# Altium integrated library Actel ProASIC PLUS.IntLib: 242 symbols (part 8 of 36)
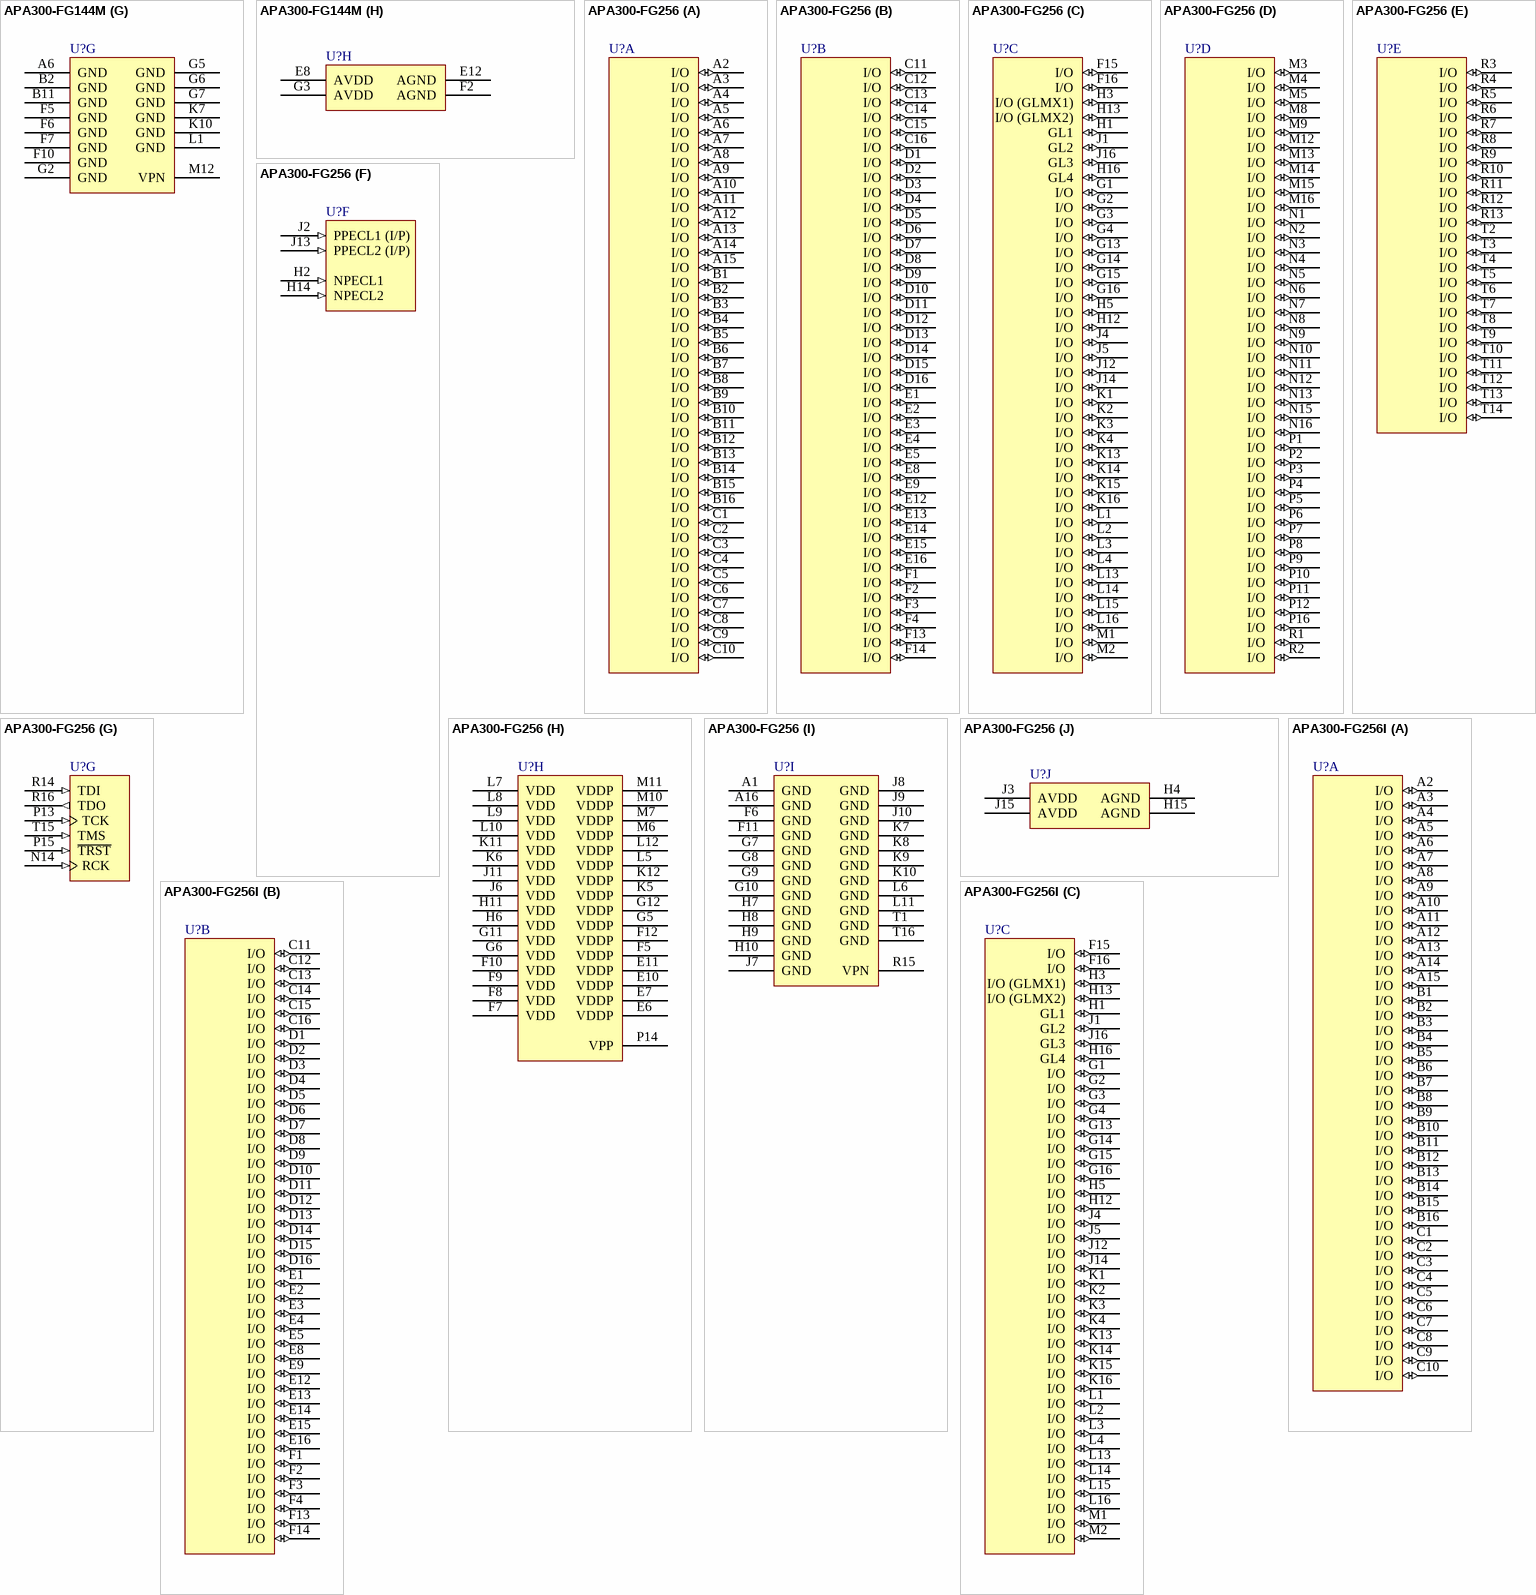
[diagram p204: symbols APA300-FG144M to APA300-FG256I]

## APA300-FG144M
designator U?
ProASICPlus APA300 Flash FPGA, 100 User IOs, 114-Pin FBGA, Speed Grade Standard, Military Grade; DatasheetVersion: v5.9, Jan-2010; PackageVersion: rev39, Aug-2010; PackageReference: FG144; PackageDescription: 144-Ball Fine Pitch Plastic Ball Grid Array (FG144); Code_JEDEC: MO-192-DAD-1; ComponentLink1Description: Manufacturer URL; ComponentLink1URL: http://www.actel.com/; ComponentLink2Description: ProASIC PLUS Datasheet; ComponentLink2URL: http://www.actel.com/documents/ProASICPLUS_DS.pdf; ComponentLink3Description: Package Mechanical Drawings; ComponentLink3URL: http://www.actel.com/documents/PckgMechDrwngs.pdf; ComponentLink4Description: ProASIC PLUS Documents; ComponentLink4URL: http://www.actel.com/products/proasicplus/docs.aspx
footprint FG144 (BGA, 144-Leads, Body 13x13mm, Pitch 1mm)
part A pins: A1 I/O (io), A2 I/O (io), A3 I/O (io), A4 I/O (io), A5 I/O (io), A7 I/O (io), A9 I/O (io), A10 I/O (io), A11 I/O (io), A12 I/O (io), B1 I/O (io), B3 I/O (io), B4 I/O (io), B5 I/O (io), B6 I/O (io), B7 I/O (io), B8 I/O (io), B9 I/O (io), B10 I/O (io), B12 I/O (io), C1 I/O (io), C3 I/O (io), C5 I/O (io), C6 I/O (io), C7 I/O (io), C8 I/O (io), C9 I/O (io), C10 I/O (io), C11 I/O (io), C12 I/O (io), D1 I/O (io), D2 I/O (io), D3 I/O (io), D4 I/O (io), D5 I/O (io), D6 I/O (io), D7 I/O (io), D8 I/O (io), D9 I/O (io), D10 I/O (io)
part B pins: C2 I/O (GL1) (io), D11 I/O (io), D12 I/O (GLMX2) (io), E2 I/O (io), E3 I/O (io), E5 I/O (io), F1 I/O (GL2) (io), F3 I/O (GLMX1) (io), F4 I/O (io), F8 I/O (io), F9 GL4 (io), F12 GL3 (io), G8 I/O (io), G9 I/O (io), G10 I/O (io), G11 I/O (io), G12 I/O (io), H2 I/O (io), H3 I/O (io), H4 I/O (io), H6 I/O (io), H7 I/O (io), H8 I/O (io), H9 I/O (io), H11 I/O (io), J1 I/O (io), J2 I/O (io), J4 I/O (io), J5 I/O (io), J6 I/O (io), J9 I/O (io), J11 I/O (io), J12 I/O (io), K1 I/O (io), K2 I/O (io), K3 I/O (io), K4 I/O (io), K5 I/O (io), K6 I/O (io), K8 I/O (io)
part C pins: K9 I/O (io), K11 I/O (io), K12 I/O (io), L2 I/O (io), L3 I/O (io), L4 I/O (io), L6 I/O (io), L7 I/O (io), L8 I/O (io), L11 I/O (io), M1 I/O (io), M2 I/O (io), M3 I/O (io), M4 I/O (io), M5 I/O (io), M6 I/O (io), M7 I/O (io), M8 I/O (io)
part D pins: E11 NPECL2 (in), F11 PPECL2 (I/P) (in), G1 PPECL1 (I/P) (in), G4 NPECL1 (in)
part E pins: J8 TCK (in), J10 TDO (out), L9 TMS (in), L10 RCK (in), L12 ~{TRST} (in), M9 TDI (in)
part F pins: A8 VDD (power), C4 VDD (power), E1 VDD (power), E4 VDDP (power), E6 VDDP (power), E7 VDDP (power), E9 VDDP (power), E10 VDD (power), H1 VDD (power), H5 VDD (power), H10 VDDP (power), H12 VDD (power), J3 VDDP (power), J7 VDD (power), L5 VDDP (power), M10 VDDP (power), M11 VPP (power)
part G pins: A6 GND (power), B2 GND (power), B11 GND (power), F5 GND (power), F6 GND (power), F7 GND (power), F10 GND (power), G2 GND (power), G5 GND (power), G6 GND (power), G7 GND (power), K7 GND (power), K10 GND (power), L1 GND (power), M12 VPN (power)
part H pins: E8 AVDD (power), E12 AGND (power), F2 AGND (power), G3 AVDD (power)

## APA300-FG256
designator U?
ProASICPlus APA300 Flash FPGA, 186 User IOs, 256-Pin FBGA, Speed Grade Standard, Commercial Grade; DatasheetVersion: v5.9, Jan-2010; PackageVersion: rev39, Aug-2010; PackageReference: FG256; PackageDescription: 256-Ball Fine Pitch Plastic Ball Grid Array 1.00 mm Pitch (FG256); Code_JEDEC: MO-192-DAF-1; ComponentLink1Description: Manufacturer URL; ComponentLink1URL: http://www.actel.com/; ComponentLink2Description: ProASIC PLUS Datasheet; ComponentLink2URL: http://www.actel.com/documents/ProASICPLUS_DS.pdf; ComponentLink3Description: Package Mechanical Drawings; ComponentLink3URL: http://www.actel.com/documents/PckgMechDrwngs.pdf; ComponentLink4Description: ProASIC PLUS Documents; ComponentLink4URL: http://www.actel.com/products/proasicplus/docs.aspx
footprint FG256 (BGA, 256-Leads, Body 17x17mm, Pitch 1mm)
part A pins: A2 I/O (io), A3 I/O (io), A4 I/O (io), A5 I/O (io), A6 I/O (io), A7 I/O (io), A8 I/O (io), A9 I/O (io), A10 I/O (io), A11 I/O (io), A12 I/O (io), A13 I/O (io), A14 I/O (io), A15 I/O (io), B1 I/O (io), B2 I/O (io), B3 I/O (io), B4 I/O (io), B5 I/O (io), B6 I/O (io), B7 I/O (io), B8 I/O (io), B9 I/O (io), B10 I/O (io), B11 I/O (io), B12 I/O (io), B13 I/O (io), B14 I/O (io), B15 I/O (io), B16 I/O (io), C1 I/O (io), C2 I/O (io), C3 I/O (io), C4 I/O (io), C5 I/O (io), C6 I/O (io), C7 I/O (io), C8 I/O (io), C9 I/O (io), C10 I/O (io)
part B pins: C11 I/O (io), C12 I/O (io), C13 I/O (io), C14 I/O (io), C15 I/O (io), C16 I/O (io), D1 I/O (io), D2 I/O (io), D3 I/O (io), D4 I/O (io), D5 I/O (io), D6 I/O (io), D7 I/O (io), D8 I/O (io), D9 I/O (io), D10 I/O (io), D11 I/O (io), D12 I/O (io), D13 I/O (io), D14 I/O (io), D15 I/O (io), D16 I/O (io), E1 I/O (io), E2 I/O (io), E3 I/O (io), E4 I/O (io), E5 I/O (io), E8 I/O (io), E9 I/O (io), E12 I/O (io), E13 I/O (io), E14 I/O (io), E15 I/O (io), E16 I/O (io), F1 I/O (io), F2 I/O (io), F3 I/O (io), F4 I/O (io), F13 I/O (io), F14 I/O (io)
part C pins: F15 I/O (io), F16 I/O (io), G1 I/O (io), G2 I/O (io), G3 I/O (io), G4 I/O (io), G13 I/O (io), G14 I/O (io), G15 I/O (io), G16 I/O (io), H1 GL1 (io), H3 I/O (GLMX1) (io), H5 I/O (io), H12 I/O (io), H13 I/O (GLMX2) (io), H16 GL4 (io), J1 GL2 (io), J4 I/O (io), J5 I/O (io), J12 I/O (io), J14 I/O (io), J16 GL3 (io), K1 I/O (io), K2 I/O (io), K3 I/O (io), K4 I/O (io), K13 I/O (io), K14 I/O (io), K15 I/O (io), K16 I/O (io), L1 I/O (io), L2 I/O (io), L3 I/O (io), L4 I/O (io), L13 I/O (io), L14 I/O (io), L15 I/O (io), L16 I/O (io), M1 I/O (io), M2 I/O (io)
part D pins: M3 I/O (io), M4 I/O (io), M5 I/O (io), M8 I/O (io), M9 I/O (io), M12 I/O (io), M13 I/O (io), M14 I/O (io), M15 I/O (io), M16 I/O (io), N1 I/O (io), N2 I/O (io), N3 I/O (io), N4 I/O (io), N5 I/O (io), N6 I/O (io), N7 I/O (io), N8 I/O (io), N9 I/O (io), N10 I/O (io), N11 I/O (io), N12 I/O (io), N13 I/O (io), N15 I/O (io), N16 I/O (io), P1 I/O (io), P2 I/O (io), P3 I/O (io), P4 I/O (io), P5 I/O (io), P6 I/O (io), P7 I/O (io), P8 I/O (io), P9 I/O (io), P10 I/O (io), P11 I/O (io), P12 I/O (io), P16 I/O (io), R1 I/O (io), R2 I/O (io)
part E pins: R3 I/O (io), R4 I/O (io), R5 I/O (io), R6 I/O (io), R7 I/O (io), R8 I/O (io), R9 I/O (io), R10 I/O (io), R11 I/O (io), R12 I/O (io), R13 I/O (io), T2 I/O (io), T3 I/O (io), T4 I/O (io), T5 I/O (io), T6 I/O (io), T7 I/O (io), T8 I/O (io), T9 I/O (io), T10 I/O (io), T11 I/O (io), T12 I/O (io), T13 I/O (io), T14 I/O (io)
part F pins: H2 NPECL1 (in), H14 NPECL2 (in), J2 PPECL1 (I/P) (in), J13 PPECL2 (I/P) (in)
part G pins: N14 RCK (in), P13 TCK (in), P15 ~{TRST} (in), R14 TDI (in), R16 TDO (out), T15 TMS (in)
part H pins: E6 VDDP (power), E7 VDDP (power), E10 VDDP (power), E11 VDDP (power), F5 VDDP (power), F7 VDD (power), F8 VDD (power), F9 VDD (power), F10 VDD (power), F12 VDDP (power), G5 VDDP (power), G6 VDD (power), G11 VDD (power), G12 VDDP (power), H6 VDD (power), H11 VDD (power), J6 VDD (power), J11 VDD (power), K5 VDDP (power), K6 VDD (power), K11 VDD (power), K12 VDDP (power), L5 VDDP (power), L7 VDD (power), L8 VDD (power), L9 VDD (power), L10 VDD (power), L12 VDDP (power), M6 VDDP (power), M7 VDDP (power), M10 VDDP (power), M11 VDDP (power), P14 VPP (power)
part I pins: A1 GND (power), A16 GND (power), F6 GND (power), F11 GND (power), G7 GND (power), G8 GND (power), G9 GND (power), G10 GND (power), H7 GND (power), H8 GND (power), H9 GND (power), H10 GND (power), J7 GND (power), J8 GND (power), J9 GND (power), J10 GND (power), K7 GND (power), K8 GND (power), K9 GND (power), K10 GND (power), L6 GND (power), L11 GND (power), R15 VPN (power), T1 GND (power), T16 GND (power)
part J pins: H4 AGND (power), H15 AGND (power), J3 AVDD (power), J15 AVDD (power)

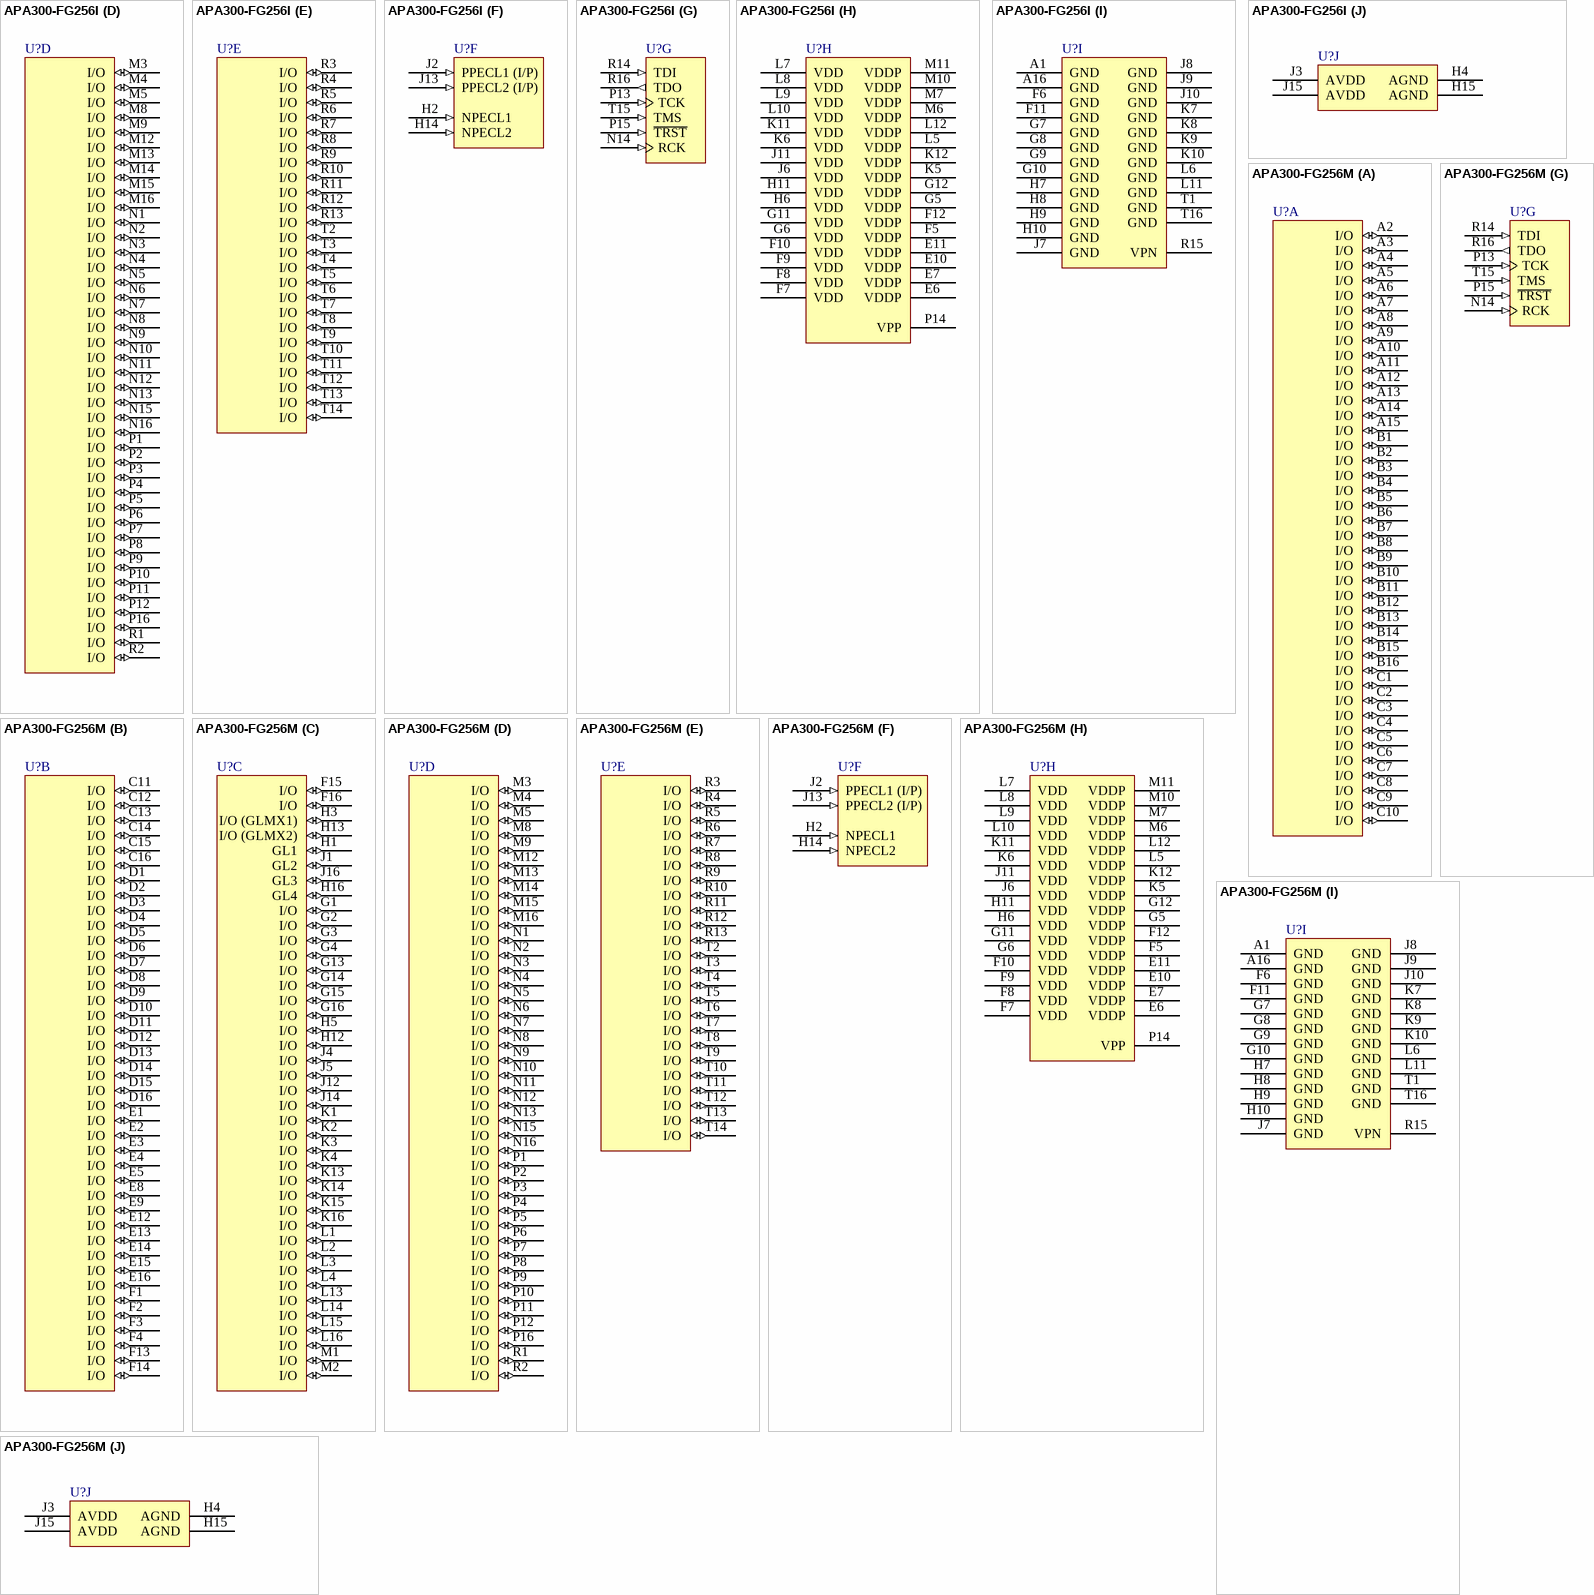
[diagram p48: symbols APA300-FG256I to APA300-FG256M]

## APA300-FG256I
designator U?
ProASICPlus APA300 Flash FPGA, 186 User IOs, 256-Pin FBGA, Speed Grade Standard, Industrial Grade; DatasheetVersion: v5.9, Jan-2010; PackageVersion: rev39, Aug-2010; PackageReference: FG256; PackageDescription: 256-Ball Fine Pitch Plastic Ball Grid Array 1.00 mm Pitch (FG256); Code_JEDEC: MO-192-DAF-1; ComponentLink1Description: Manufacturer URL; ComponentLink1URL: http://www.actel.com/; ComponentLink2Description: ProASIC PLUS Datasheet; ComponentLink2URL: http://www.actel.com/documents/ProASICPLUS_DS.pdf; ComponentLink3Description: Package Mechanical Drawings; ComponentLink3URL: http://www.actel.com/documents/PckgMechDrwngs.pdf; ComponentLink4Description: ProASIC PLUS Documents; ComponentLink4URL: http://www.actel.com/products/proasicplus/docs.aspx
footprint FG256 (BGA, 256-Leads, Body 17x17mm, Pitch 1mm)
part A pins: A2 I/O (io), A3 I/O (io), A4 I/O (io), A5 I/O (io), A6 I/O (io), A7 I/O (io), A8 I/O (io), A9 I/O (io), A10 I/O (io), A11 I/O (io), A12 I/O (io), A13 I/O (io), A14 I/O (io), A15 I/O (io), B1 I/O (io), B2 I/O (io), B3 I/O (io), B4 I/O (io), B5 I/O (io), B6 I/O (io), B7 I/O (io), B8 I/O (io), B9 I/O (io), B10 I/O (io), B11 I/O (io), B12 I/O (io), B13 I/O (io), B14 I/O (io), B15 I/O (io), B16 I/O (io), C1 I/O (io), C2 I/O (io), C3 I/O (io), C4 I/O (io), C5 I/O (io), C6 I/O (io), C7 I/O (io), C8 I/O (io), C9 I/O (io), C10 I/O (io)
part B pins: C11 I/O (io), C12 I/O (io), C13 I/O (io), C14 I/O (io), C15 I/O (io), C16 I/O (io), D1 I/O (io), D2 I/O (io), D3 I/O (io), D4 I/O (io), D5 I/O (io), D6 I/O (io), D7 I/O (io), D8 I/O (io), D9 I/O (io), D10 I/O (io), D11 I/O (io), D12 I/O (io), D13 I/O (io), D14 I/O (io), D15 I/O (io), D16 I/O (io), E1 I/O (io), E2 I/O (io), E3 I/O (io), E4 I/O (io), E5 I/O (io), E8 I/O (io), E9 I/O (io), E12 I/O (io), E13 I/O (io), E14 I/O (io), E15 I/O (io), E16 I/O (io), F1 I/O (io), F2 I/O (io), F3 I/O (io), F4 I/O (io), F13 I/O (io), F14 I/O (io)
part C pins: F15 I/O (io), F16 I/O (io), G1 I/O (io), G2 I/O (io), G3 I/O (io), G4 I/O (io), G13 I/O (io), G14 I/O (io), G15 I/O (io), G16 I/O (io), H1 GL1 (io), H3 I/O (GLMX1) (io), H5 I/O (io), H12 I/O (io), H13 I/O (GLMX2) (io), H16 GL4 (io), J1 GL2 (io), J4 I/O (io), J5 I/O (io), J12 I/O (io), J14 I/O (io), J16 GL3 (io), K1 I/O (io), K2 I/O (io), K3 I/O (io), K4 I/O (io), K13 I/O (io), K14 I/O (io), K15 I/O (io), K16 I/O (io), L1 I/O (io), L2 I/O (io), L3 I/O (io), L4 I/O (io), L13 I/O (io), L14 I/O (io), L15 I/O (io), L16 I/O (io), M1 I/O (io), M2 I/O (io)
part D pins: M3 I/O (io), M4 I/O (io), M5 I/O (io), M8 I/O (io), M9 I/O (io), M12 I/O (io), M13 I/O (io), M14 I/O (io), M15 I/O (io), M16 I/O (io), N1 I/O (io), N2 I/O (io), N3 I/O (io), N4 I/O (io), N5 I/O (io), N6 I/O (io), N7 I/O (io), N8 I/O (io), N9 I/O (io), N10 I/O (io), N11 I/O (io), N12 I/O (io), N13 I/O (io), N15 I/O (io), N16 I/O (io), P1 I/O (io), P2 I/O (io), P3 I/O (io), P4 I/O (io), P5 I/O (io), P6 I/O (io), P7 I/O (io), P8 I/O (io), P9 I/O (io), P10 I/O (io), P11 I/O (io), P12 I/O (io), P16 I/O (io), R1 I/O (io), R2 I/O (io)
part E pins: R3 I/O (io), R4 I/O (io), R5 I/O (io), R6 I/O (io), R7 I/O (io), R8 I/O (io), R9 I/O (io), R10 I/O (io), R11 I/O (io), R12 I/O (io), R13 I/O (io), T2 I/O (io), T3 I/O (io), T4 I/O (io), T5 I/O (io), T6 I/O (io), T7 I/O (io), T8 I/O (io), T9 I/O (io), T10 I/O (io), T11 I/O (io), T12 I/O (io), T13 I/O (io), T14 I/O (io)
part F pins: H2 NPECL1 (in), H14 NPECL2 (in), J2 PPECL1 (I/P) (in), J13 PPECL2 (I/P) (in)
part G pins: N14 RCK (in), P13 TCK (in), P15 ~{TRST} (in), R14 TDI (in), R16 TDO (out), T15 TMS (in)
part H pins: E6 VDDP (power), E7 VDDP (power), E10 VDDP (power), E11 VDDP (power), F5 VDDP (power), F7 VDD (power), F8 VDD (power), F9 VDD (power), F10 VDD (power), F12 VDDP (power), G5 VDDP (power), G6 VDD (power), G11 VDD (power), G12 VDDP (power), H6 VDD (power), H11 VDD (power), J6 VDD (power), J11 VDD (power), K5 VDDP (power), K6 VDD (power), K11 VDD (power), K12 VDDP (power), L5 VDDP (power), L7 VDD (power), L8 VDD (power), L9 VDD (power), L10 VDD (power), L12 VDDP (power), M6 VDDP (power), M7 VDDP (power), M10 VDDP (power), M11 VDDP (power), P14 VPP (power)
part I pins: A1 GND (power), A16 GND (power), F6 GND (power), F11 GND (power), G7 GND (power), G8 GND (power), G9 GND (power), G10 GND (power), H7 GND (power), H8 GND (power), H9 GND (power), H10 GND (power), J7 GND (power), J8 GND (power), J9 GND (power), J10 GND (power), K7 GND (power), K8 GND (power), K9 GND (power), K10 GND (power), L6 GND (power), L11 GND (power), R15 VPN (power), T1 GND (power), T16 GND (power)
part J pins: H4 AGND (power), H15 AGND (power), J3 AVDD (power), J15 AVDD (power)

## APA300-FG256M
designator U?
ProASICPlus APA300 Flash FPGA, 186 User IOs, 256-Pin FBGA, Speed Grade Standard, Military Grade; DatasheetVersion: v5.9, Jan-2010; PackageVersion: rev39, Aug-2010; PackageReference: FG256; PackageDescription: 256-Ball Fine Pitch Plastic Ball Grid Array 1.00 mm Pitch (FG256); Code_JEDEC: MO-192-DAF-1; ComponentLink1Description: Manufacturer URL; ComponentLink1URL: http://www.actel.com/; ComponentLink2Description: ProASIC PLUS Datasheet; ComponentLink2URL: http://www.actel.com/documents/ProASICPLUS_DS.pdf; ComponentLink3Description: Package Mechanical Drawings; ComponentLink3URL: http://www.actel.com/documents/PckgMechDrwngs.pdf; ComponentLink4Description: ProASIC PLUS Documents; ComponentLink4URL: http://www.actel.com/products/proasicplus/docs.aspx
footprint FG256 (BGA, 256-Leads, Body 17x17mm, Pitch 1mm)
part A pins: A2 I/O (io), A3 I/O (io), A4 I/O (io), A5 I/O (io), A6 I/O (io), A7 I/O (io), A8 I/O (io), A9 I/O (io), A10 I/O (io), A11 I/O (io), A12 I/O (io), A13 I/O (io), A14 I/O (io), A15 I/O (io), B1 I/O (io), B2 I/O (io), B3 I/O (io), B4 I/O (io), B5 I/O (io), B6 I/O (io), B7 I/O (io), B8 I/O (io), B9 I/O (io), B10 I/O (io), B11 I/O (io), B12 I/O (io), B13 I/O (io), B14 I/O (io), B15 I/O (io), B16 I/O (io), C1 I/O (io), C2 I/O (io), C3 I/O (io), C4 I/O (io), C5 I/O (io), C6 I/O (io), C7 I/O (io), C8 I/O (io), C9 I/O (io), C10 I/O (io)
part B pins: C11 I/O (io), C12 I/O (io), C13 I/O (io), C14 I/O (io), C15 I/O (io), C16 I/O (io), D1 I/O (io), D2 I/O (io), D3 I/O (io), D4 I/O (io), D5 I/O (io), D6 I/O (io), D7 I/O (io), D8 I/O (io), D9 I/O (io), D10 I/O (io), D11 I/O (io), D12 I/O (io), D13 I/O (io), D14 I/O (io), D15 I/O (io), D16 I/O (io), E1 I/O (io), E2 I/O (io), E3 I/O (io), E4 I/O (io), E5 I/O (io), E8 I/O (io), E9 I/O (io), E12 I/O (io), E13 I/O (io), E14 I/O (io), E15 I/O (io), E16 I/O (io), F1 I/O (io), F2 I/O (io), F3 I/O (io), F4 I/O (io), F13 I/O (io), F14 I/O (io)
part C pins: F15 I/O (io), F16 I/O (io), G1 I/O (io), G2 I/O (io), G3 I/O (io), G4 I/O (io), G13 I/O (io), G14 I/O (io), G15 I/O (io), G16 I/O (io), H1 GL1 (io), H3 I/O (GLMX1) (io), H5 I/O (io), H12 I/O (io), H13 I/O (GLMX2) (io), H16 GL4 (io), J1 GL2 (io), J4 I/O (io), J5 I/O (io), J12 I/O (io), J14 I/O (io), J16 GL3 (io), K1 I/O (io), K2 I/O (io), K3 I/O (io), K4 I/O (io), K13 I/O (io), K14 I/O (io), K15 I/O (io), K16 I/O (io), L1 I/O (io), L2 I/O (io), L3 I/O (io), L4 I/O (io), L13 I/O (io), L14 I/O (io), L15 I/O (io), L16 I/O (io), M1 I/O (io), M2 I/O (io)
part D pins: M3 I/O (io), M4 I/O (io), M5 I/O (io), M8 I/O (io), M9 I/O (io), M12 I/O (io), M13 I/O (io), M14 I/O (io), M15 I/O (io), M16 I/O (io), N1 I/O (io), N2 I/O (io), N3 I/O (io), N4 I/O (io), N5 I/O (io), N6 I/O (io), N7 I/O (io), N8 I/O (io), N9 I/O (io), N10 I/O (io), N11 I/O (io), N12 I/O (io), N13 I/O (io), N15 I/O (io), N16 I/O (io), P1 I/O (io), P2 I/O (io), P3 I/O (io), P4 I/O (io), P5 I/O (io), P6 I/O (io), P7 I/O (io), P8 I/O (io), P9 I/O (io), P10 I/O (io), P11 I/O (io), P12 I/O (io), P16 I/O (io), R1 I/O (io), R2 I/O (io)
part E pins: R3 I/O (io), R4 I/O (io), R5 I/O (io), R6 I/O (io), R7 I/O (io), R8 I/O (io), R9 I/O (io), R10 I/O (io), R11 I/O (io), R12 I/O (io), R13 I/O (io), T2 I/O (io), T3 I/O (io), T4 I/O (io), T5 I/O (io), T6 I/O (io), T7 I/O (io), T8 I/O (io), T9 I/O (io), T10 I/O (io), T11 I/O (io), T12 I/O (io), T13 I/O (io), T14 I/O (io)
part F pins: H2 NPECL1 (in), H14 NPECL2 (in), J2 PPECL1 (I/P) (in), J13 PPECL2 (I/P) (in)
part G pins: N14 RCK (in), P13 TCK (in), P15 ~{TRST} (in), R14 TDI (in), R16 TDO (out), T15 TMS (in)
part H pins: E6 VDDP (power), E7 VDDP (power), E10 VDDP (power), E11 VDDP (power), F5 VDDP (power), F7 VDD (power), F8 VDD (power), F9 VDD (power), F10 VDD (power), F12 VDDP (power), G5 VDDP (power), G6 VDD (power), G11 VDD (power), G12 VDDP (power), H6 VDD (power), H11 VDD (power), J6 VDD (power), J11 VDD (power), K5 VDDP (power), K6 VDD (power), K11 VDD (power), K12 VDDP (power), L5 VDDP (power), L7 VDD (power), L8 VDD (power), L9 VDD (power), L10 VDD (power), L12 VDDP (power), M6 VDDP (power), M7 VDDP (power), M10 VDDP (power), M11 VDDP (power), P14 VPP (power)
part I pins: A1 GND (power), A16 GND (power), F6 GND (power), F11 GND (power), G7 GND (power), G8 GND (power), G9 GND (power), G10 GND (power), H7 GND (power), H8 GND (power), H9 GND (power), H10 GND (power), J7 GND (power), J8 GND (power), J9 GND (power), J10 GND (power), K7 GND (power), K8 GND (power), K9 GND (power), K10 GND (power), L6 GND (power), L11 GND (power), R15 VPN (power), T1 GND (power), T16 GND (power)
part J pins: H4 AGND (power), H15 AGND (power), J3 AVDD (power), J15 AVDD (power)

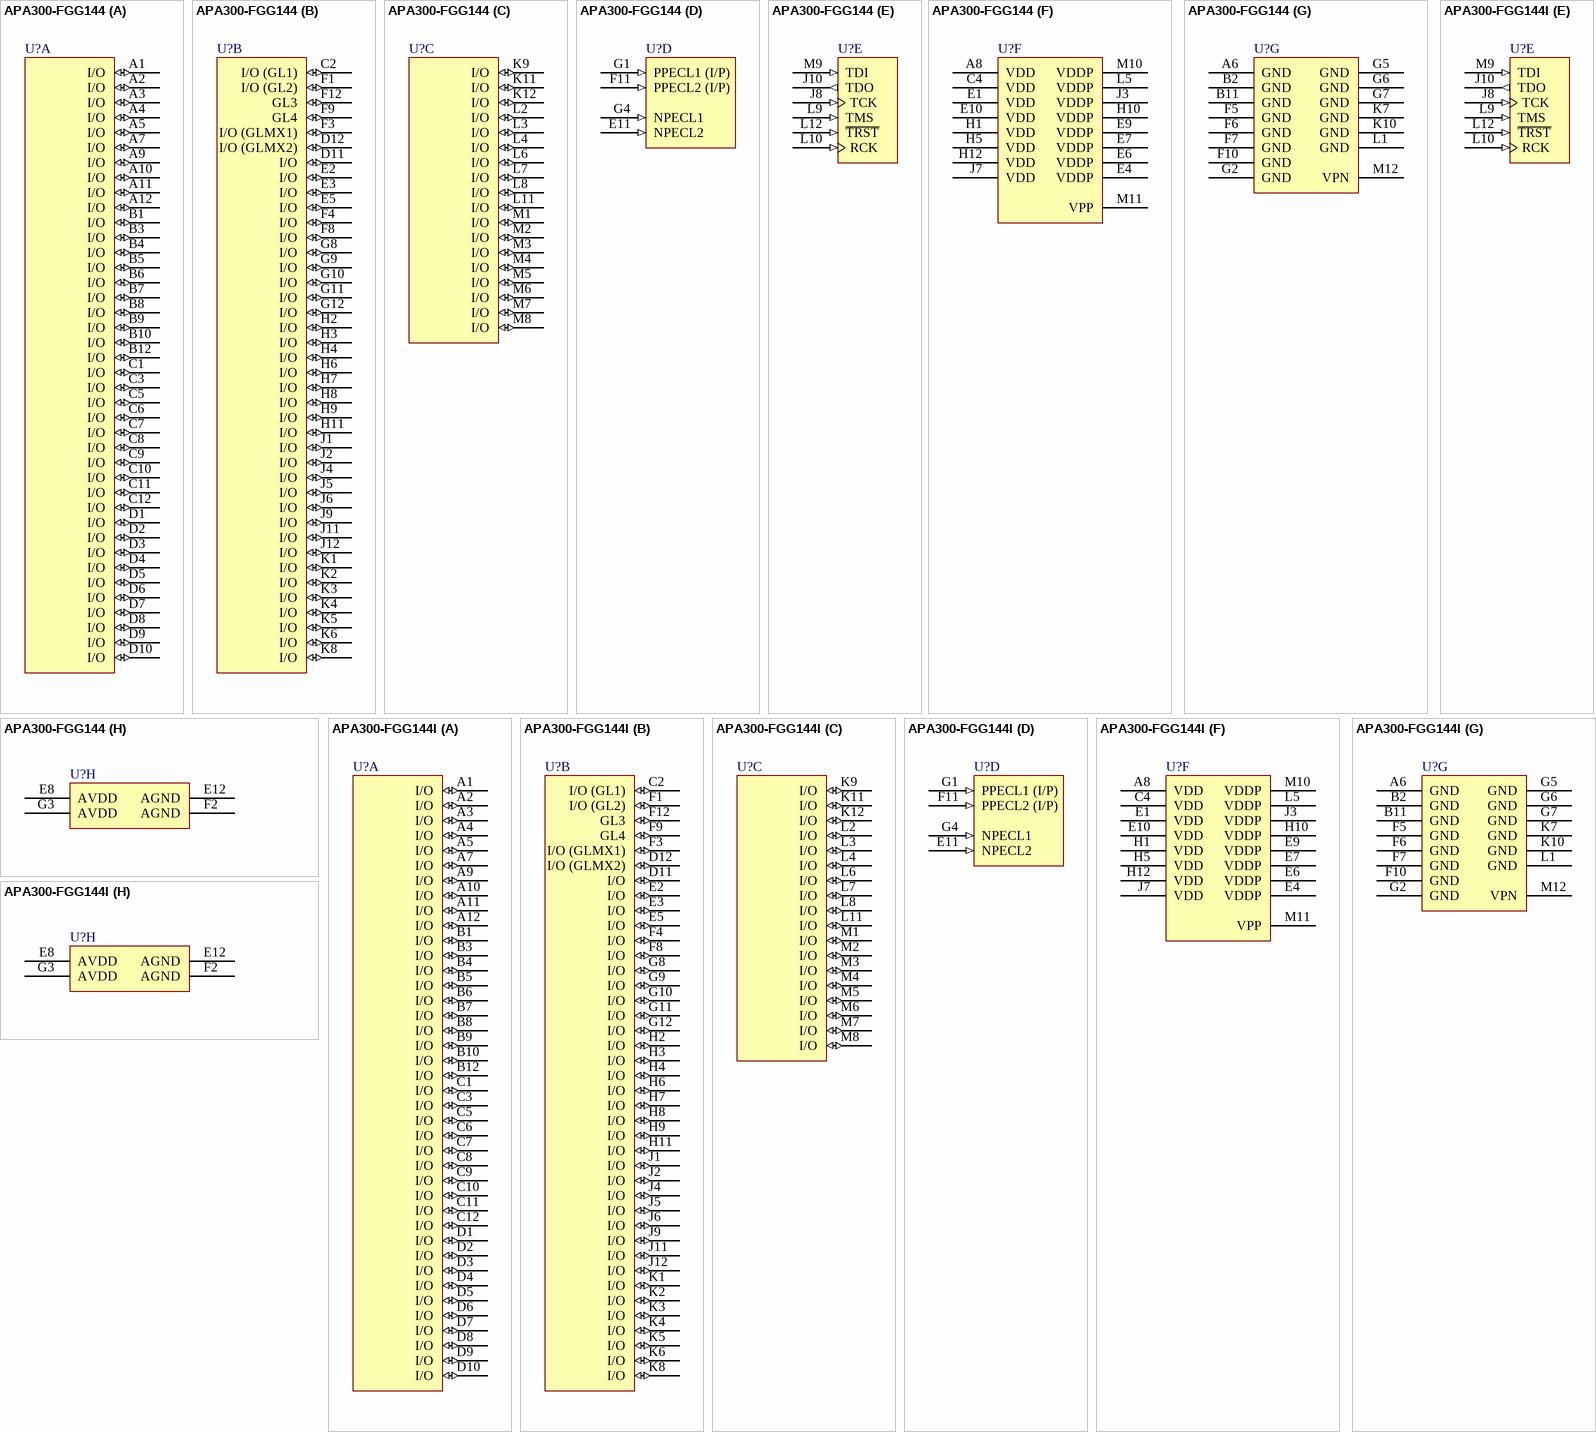
[diagram p49: symbols APA300-FGG144 to APA300-FGG144I]

## APA300-FGG144
designator U?
ProASICPlus APA300 Flash FPGA, 100 User IOs, 114-Pin FBGA, Speed Grade Standard, Commercial Grade, Pb-Free; DatasheetVersion: v5.9, Jan-2010; PackageVersion: rev39, Aug-2010; PackageReference: FG144; PackageDescription: 144-Ball Fine Pitch Plastic Ball Grid Array (FG144); Code_JEDEC: MO-192-DAD-1; ComponentLink1Description: Manufacturer URL; ComponentLink1URL: http://www.actel.com/; ComponentLink2Description: ProASIC PLUS Datasheet; ComponentLink2URL: http://www.actel.com/documents/ProASICPLUS_DS.pdf; ComponentLink3Description: Package Mechanical Drawings; ComponentLink3URL: http://www.actel.com/documents/PckgMechDrwngs.pdf; ComponentLink4Description: ProASIC PLUS Documents; ComponentLink4URL: http://www.actel.com/products/proasicplus/docs.aspx
footprint FG144 (BGA, 144-Leads, Body 13x13mm, Pitch 1mm)
part A pins: A1 I/O (io), A2 I/O (io), A3 I/O (io), A4 I/O (io), A5 I/O (io), A7 I/O (io), A9 I/O (io), A10 I/O (io), A11 I/O (io), A12 I/O (io), B1 I/O (io), B3 I/O (io), B4 I/O (io), B5 I/O (io), B6 I/O (io), B7 I/O (io), B8 I/O (io), B9 I/O (io), B10 I/O (io), B12 I/O (io), C1 I/O (io), C3 I/O (io), C5 I/O (io), C6 I/O (io), C7 I/O (io), C8 I/O (io), C9 I/O (io), C10 I/O (io), C11 I/O (io), C12 I/O (io), D1 I/O (io), D2 I/O (io), D3 I/O (io), D4 I/O (io), D5 I/O (io), D6 I/O (io), D7 I/O (io), D8 I/O (io), D9 I/O (io), D10 I/O (io)
part B pins: C2 I/O (GL1) (io), D11 I/O (io), D12 I/O (GLMX2) (io), E2 I/O (io), E3 I/O (io), E5 I/O (io), F1 I/O (GL2) (io), F3 I/O (GLMX1) (io), F4 I/O (io), F8 I/O (io), F9 GL4 (io), F12 GL3 (io), G8 I/O (io), G9 I/O (io), G10 I/O (io), G11 I/O (io), G12 I/O (io), H2 I/O (io), H3 I/O (io), H4 I/O (io), H6 I/O (io), H7 I/O (io), H8 I/O (io), H9 I/O (io), H11 I/O (io), J1 I/O (io), J2 I/O (io), J4 I/O (io), J5 I/O (io), J6 I/O (io), J9 I/O (io), J11 I/O (io), J12 I/O (io), K1 I/O (io), K2 I/O (io), K3 I/O (io), K4 I/O (io), K5 I/O (io), K6 I/O (io), K8 I/O (io)
part C pins: K9 I/O (io), K11 I/O (io), K12 I/O (io), L2 I/O (io), L3 I/O (io), L4 I/O (io), L6 I/O (io), L7 I/O (io), L8 I/O (io), L11 I/O (io), M1 I/O (io), M2 I/O (io), M3 I/O (io), M4 I/O (io), M5 I/O (io), M6 I/O (io), M7 I/O (io), M8 I/O (io)
part D pins: E11 NPECL2 (in), F11 PPECL2 (I/P) (in), G1 PPECL1 (I/P) (in), G4 NPECL1 (in)
part E pins: J8 TCK (in), J10 TDO (out), L9 TMS (in), L10 RCK (in), L12 ~{TRST} (in), M9 TDI (in)
part F pins: A8 VDD (power), C4 VDD (power), E1 VDD (power), E4 VDDP (power), E6 VDDP (power), E7 VDDP (power), E9 VDDP (power), E10 VDD (power), H1 VDD (power), H5 VDD (power), H10 VDDP (power), H12 VDD (power), J3 VDDP (power), J7 VDD (power), L5 VDDP (power), M10 VDDP (power), M11 VPP (power)
part G pins: A6 GND (power), B2 GND (power), B11 GND (power), F5 GND (power), F6 GND (power), F7 GND (power), F10 GND (power), G2 GND (power), G5 GND (power), G6 GND (power), G7 GND (power), K7 GND (power), K10 GND (power), L1 GND (power), M12 VPN (power)
part H pins: E8 AVDD (power), E12 AGND (power), F2 AGND (power), G3 AVDD (power)

## APA300-FGG144I
designator U?
ProASICPlus APA300 Flash FPGA, 100 User IOs, 114-Pin FBGA, Speed Grade Standard, Industrial Grade, Pb-Free; DatasheetVersion: v5.9, Jan-2010; PackageVersion: rev39, Aug-2010; PackageReference: FG144; PackageDescription: 144-Ball Fine Pitch Plastic Ball Grid Array (FG144); Code_JEDEC: MO-192-DAD-1; ComponentLink1Description: Manufacturer URL; ComponentLink1URL: http://www.actel.com/; ComponentLink2Description: ProASIC PLUS Datasheet; ComponentLink2URL: http://www.actel.com/documents/ProASICPLUS_DS.pdf; ComponentLink3Description: Package Mechanical Drawings; ComponentLink3URL: http://www.actel.com/documents/PckgMechDrwngs.pdf; ComponentLink4Description: ProASIC PLUS Documents; ComponentLink4URL: http://www.actel.com/products/proasicplus/docs.aspx
footprint FG144 (BGA, 144-Leads, Body 13x13mm, Pitch 1mm)
part A pins: A1 I/O (io), A2 I/O (io), A3 I/O (io), A4 I/O (io), A5 I/O (io), A7 I/O (io), A9 I/O (io), A10 I/O (io), A11 I/O (io), A12 I/O (io), B1 I/O (io), B3 I/O (io), B4 I/O (io), B5 I/O (io), B6 I/O (io), B7 I/O (io), B8 I/O (io), B9 I/O (io), B10 I/O (io), B12 I/O (io), C1 I/O (io), C3 I/O (io), C5 I/O (io), C6 I/O (io), C7 I/O (io), C8 I/O (io), C9 I/O (io), C10 I/O (io), C11 I/O (io), C12 I/O (io), D1 I/O (io), D2 I/O (io), D3 I/O (io), D4 I/O (io), D5 I/O (io), D6 I/O (io), D7 I/O (io), D8 I/O (io), D9 I/O (io), D10 I/O (io)
part B pins: C2 I/O (GL1) (io), D11 I/O (io), D12 I/O (GLMX2) (io), E2 I/O (io), E3 I/O (io), E5 I/O (io), F1 I/O (GL2) (io), F3 I/O (GLMX1) (io), F4 I/O (io), F8 I/O (io), F9 GL4 (io), F12 GL3 (io), G8 I/O (io), G9 I/O (io), G10 I/O (io), G11 I/O (io), G12 I/O (io), H2 I/O (io), H3 I/O (io), H4 I/O (io), H6 I/O (io), H7 I/O (io), H8 I/O (io), H9 I/O (io), H11 I/O (io), J1 I/O (io), J2 I/O (io), J4 I/O (io), J5 I/O (io), J6 I/O (io), J9 I/O (io), J11 I/O (io), J12 I/O (io), K1 I/O (io), K2 I/O (io), K3 I/O (io), K4 I/O (io), K5 I/O (io), K6 I/O (io), K8 I/O (io)
part C pins: K9 I/O (io), K11 I/O (io), K12 I/O (io), L2 I/O (io), L3 I/O (io), L4 I/O (io), L6 I/O (io), L7 I/O (io), L8 I/O (io), L11 I/O (io), M1 I/O (io), M2 I/O (io), M3 I/O (io), M4 I/O (io), M5 I/O (io), M6 I/O (io), M7 I/O (io), M8 I/O (io)
part D pins: E11 NPECL2 (in), F11 PPECL2 (I/P) (in), G1 PPECL1 (I/P) (in), G4 NPECL1 (in)
part E pins: J8 TCK (in), J10 TDO (out), L9 TMS (in), L10 RCK (in), L12 ~{TRST} (in), M9 TDI (in)
part F pins: A8 VDD (power), C4 VDD (power), E1 VDD (power), E4 VDDP (power), E6 VDDP (power), E7 VDDP (power), E9 VDDP (power), E10 VDD (power), H1 VDD (power), H5 VDD (power), H10 VDDP (power), H12 VDD (power), J3 VDDP (power), J7 VDD (power), L5 VDDP (power), M10 VDDP (power), M11 VPP (power)
part G pins: A6 GND (power), B2 GND (power), B11 GND (power), F5 GND (power), F6 GND (power), F7 GND (power), F10 GND (power), G2 GND (power), G5 GND (power), G6 GND (power), G7 GND (power), K7 GND (power), K10 GND (power), L1 GND (power), M12 VPN (power)
part H pins: E8 AVDD (power), E12 AGND (power), F2 AGND (power), G3 AVDD (power)

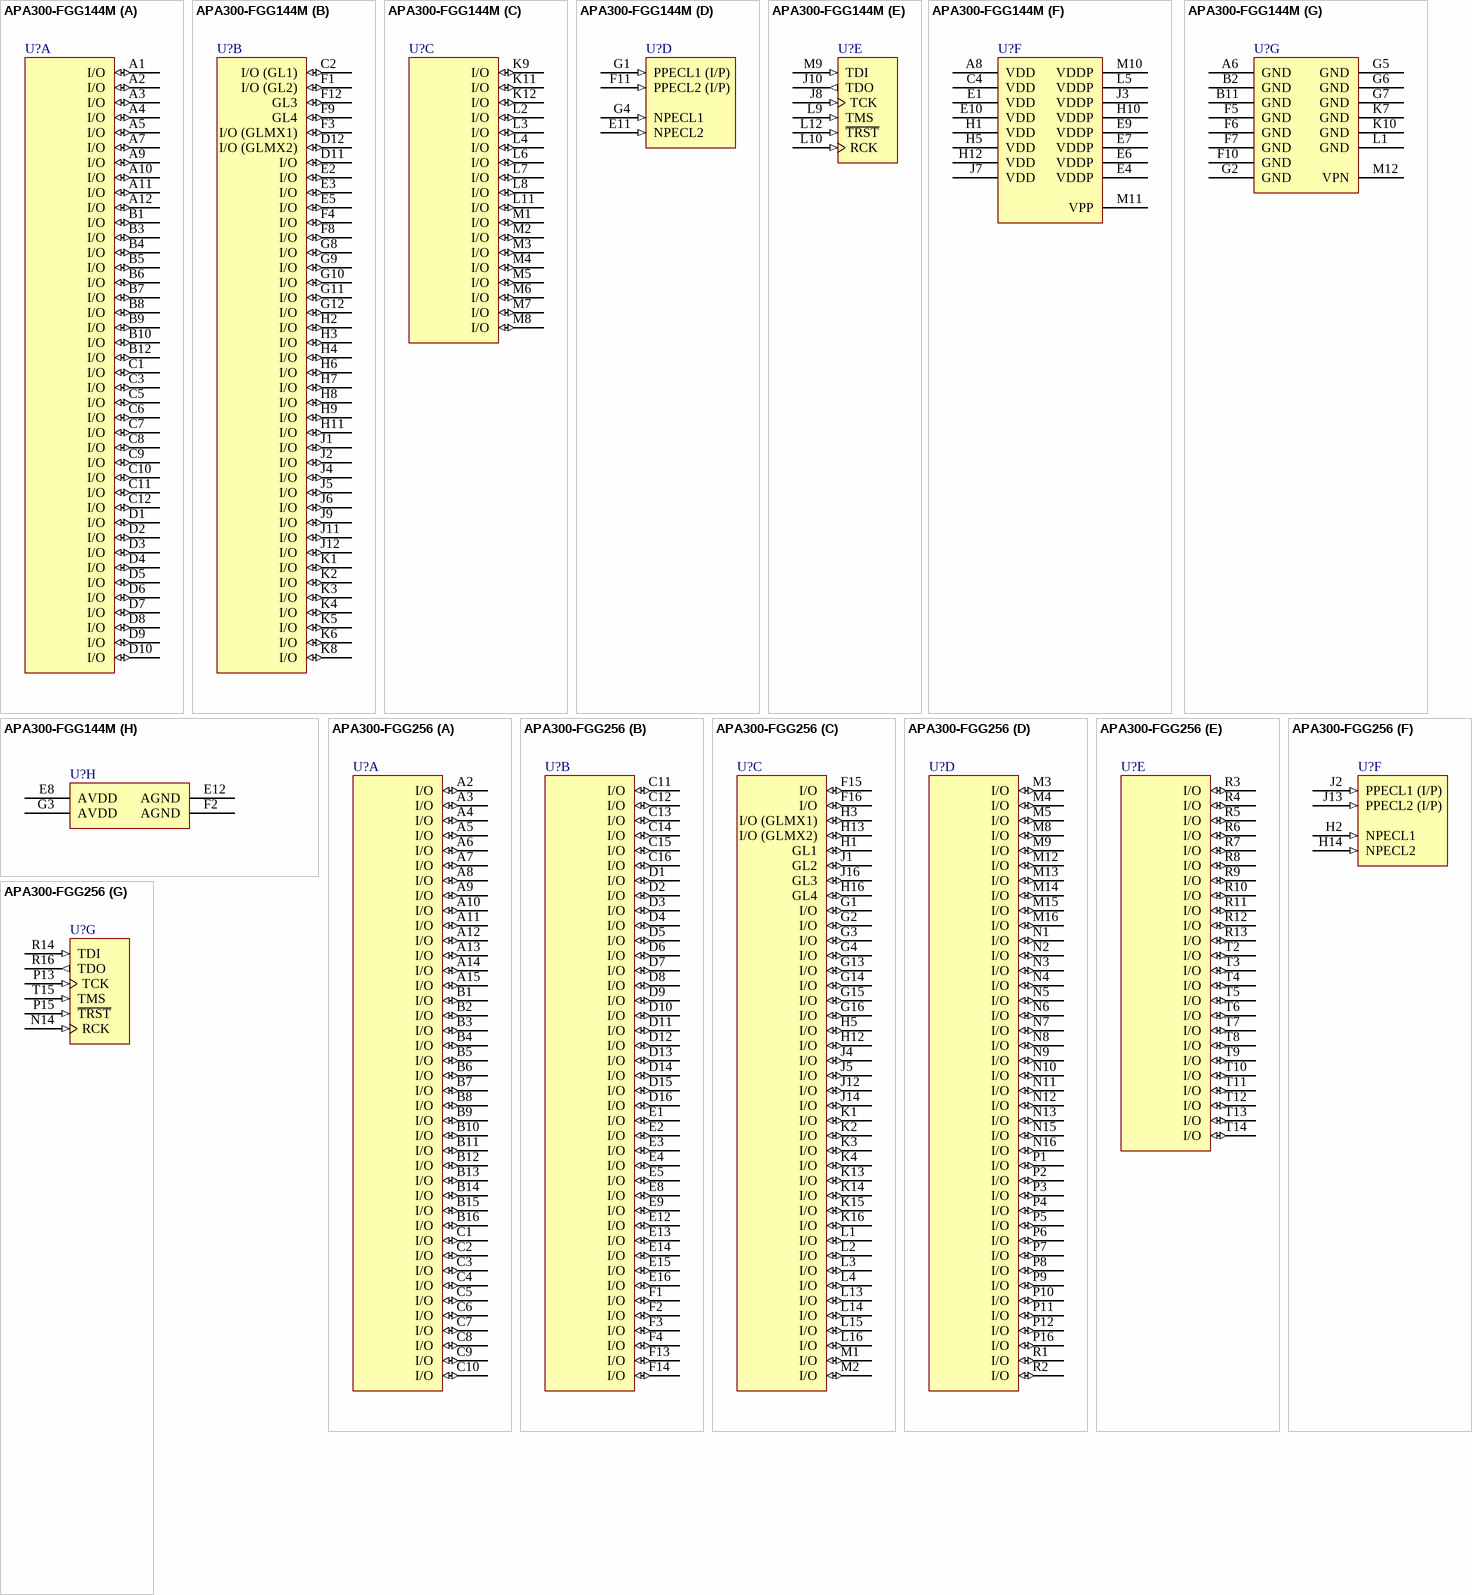
[diagram p50: symbols APA300-FGG144M to APA300-FGG256]

## APA300-FGG144M
designator U?
ProASICPlus APA300 Flash FPGA, 100 User IOs, 114-Pin FBGA, Speed Grade Standard, Military Grade, Pb-Free; DatasheetVersion: v5.9, Jan-2010; PackageVersion: rev39, Aug-2010; PackageReference: FG144; PackageDescription: 144-Ball Fine Pitch Plastic Ball Grid Array (FG144); Code_JEDEC: MO-192-DAD-1; ComponentLink1Description: Manufacturer URL; ComponentLink1URL: http://www.actel.com/; ComponentLink2Description: ProASIC PLUS Datasheet; ComponentLink2URL: http://www.actel.com/documents/ProASICPLUS_DS.pdf; ComponentLink3Description: Package Mechanical Drawings; ComponentLink3URL: http://www.actel.com/documents/PckgMechDrwngs.pdf; ComponentLink4Description: ProASIC PLUS Documents; ComponentLink4URL: http://www.actel.com/products/proasicplus/docs.aspx
footprint FG144 (BGA, 144-Leads, Body 13x13mm, Pitch 1mm)
part A pins: A1 I/O (io), A2 I/O (io), A3 I/O (io), A4 I/O (io), A5 I/O (io), A7 I/O (io), A9 I/O (io), A10 I/O (io), A11 I/O (io), A12 I/O (io), B1 I/O (io), B3 I/O (io), B4 I/O (io), B5 I/O (io), B6 I/O (io), B7 I/O (io), B8 I/O (io), B9 I/O (io), B10 I/O (io), B12 I/O (io), C1 I/O (io), C3 I/O (io), C5 I/O (io), C6 I/O (io), C7 I/O (io), C8 I/O (io), C9 I/O (io), C10 I/O (io), C11 I/O (io), C12 I/O (io), D1 I/O (io), D2 I/O (io), D3 I/O (io), D4 I/O (io), D5 I/O (io), D6 I/O (io), D7 I/O (io), D8 I/O (io), D9 I/O (io), D10 I/O (io)
part B pins: C2 I/O (GL1) (io), D11 I/O (io), D12 I/O (GLMX2) (io), E2 I/O (io), E3 I/O (io), E5 I/O (io), F1 I/O (GL2) (io), F3 I/O (GLMX1) (io), F4 I/O (io), F8 I/O (io), F9 GL4 (io), F12 GL3 (io), G8 I/O (io), G9 I/O (io), G10 I/O (io), G11 I/O (io), G12 I/O (io), H2 I/O (io), H3 I/O (io), H4 I/O (io), H6 I/O (io), H7 I/O (io), H8 I/O (io), H9 I/O (io), H11 I/O (io), J1 I/O (io), J2 I/O (io), J4 I/O (io), J5 I/O (io), J6 I/O (io), J9 I/O (io), J11 I/O (io), J12 I/O (io), K1 I/O (io), K2 I/O (io), K3 I/O (io), K4 I/O (io), K5 I/O (io), K6 I/O (io), K8 I/O (io)
part C pins: K9 I/O (io), K11 I/O (io), K12 I/O (io), L2 I/O (io), L3 I/O (io), L4 I/O (io), L6 I/O (io), L7 I/O (io), L8 I/O (io), L11 I/O (io), M1 I/O (io), M2 I/O (io), M3 I/O (io), M4 I/O (io), M5 I/O (io), M6 I/O (io), M7 I/O (io), M8 I/O (io)
part D pins: E11 NPECL2 (in), F11 PPECL2 (I/P) (in), G1 PPECL1 (I/P) (in), G4 NPECL1 (in)
part E pins: J8 TCK (in), J10 TDO (out), L9 TMS (in), L10 RCK (in), L12 ~{TRST} (in), M9 TDI (in)
part F pins: A8 VDD (power), C4 VDD (power), E1 VDD (power), E4 VDDP (power), E6 VDDP (power), E7 VDDP (power), E9 VDDP (power), E10 VDD (power), H1 VDD (power), H5 VDD (power), H10 VDDP (power), H12 VDD (power), J3 VDDP (power), J7 VDD (power), L5 VDDP (power), M10 VDDP (power), M11 VPP (power)
part G pins: A6 GND (power), B2 GND (power), B11 GND (power), F5 GND (power), F6 GND (power), F7 GND (power), F10 GND (power), G2 GND (power), G5 GND (power), G6 GND (power), G7 GND (power), K7 GND (power), K10 GND (power), L1 GND (power), M12 VPN (power)
part H pins: E8 AVDD (power), E12 AGND (power), F2 AGND (power), G3 AVDD (power)

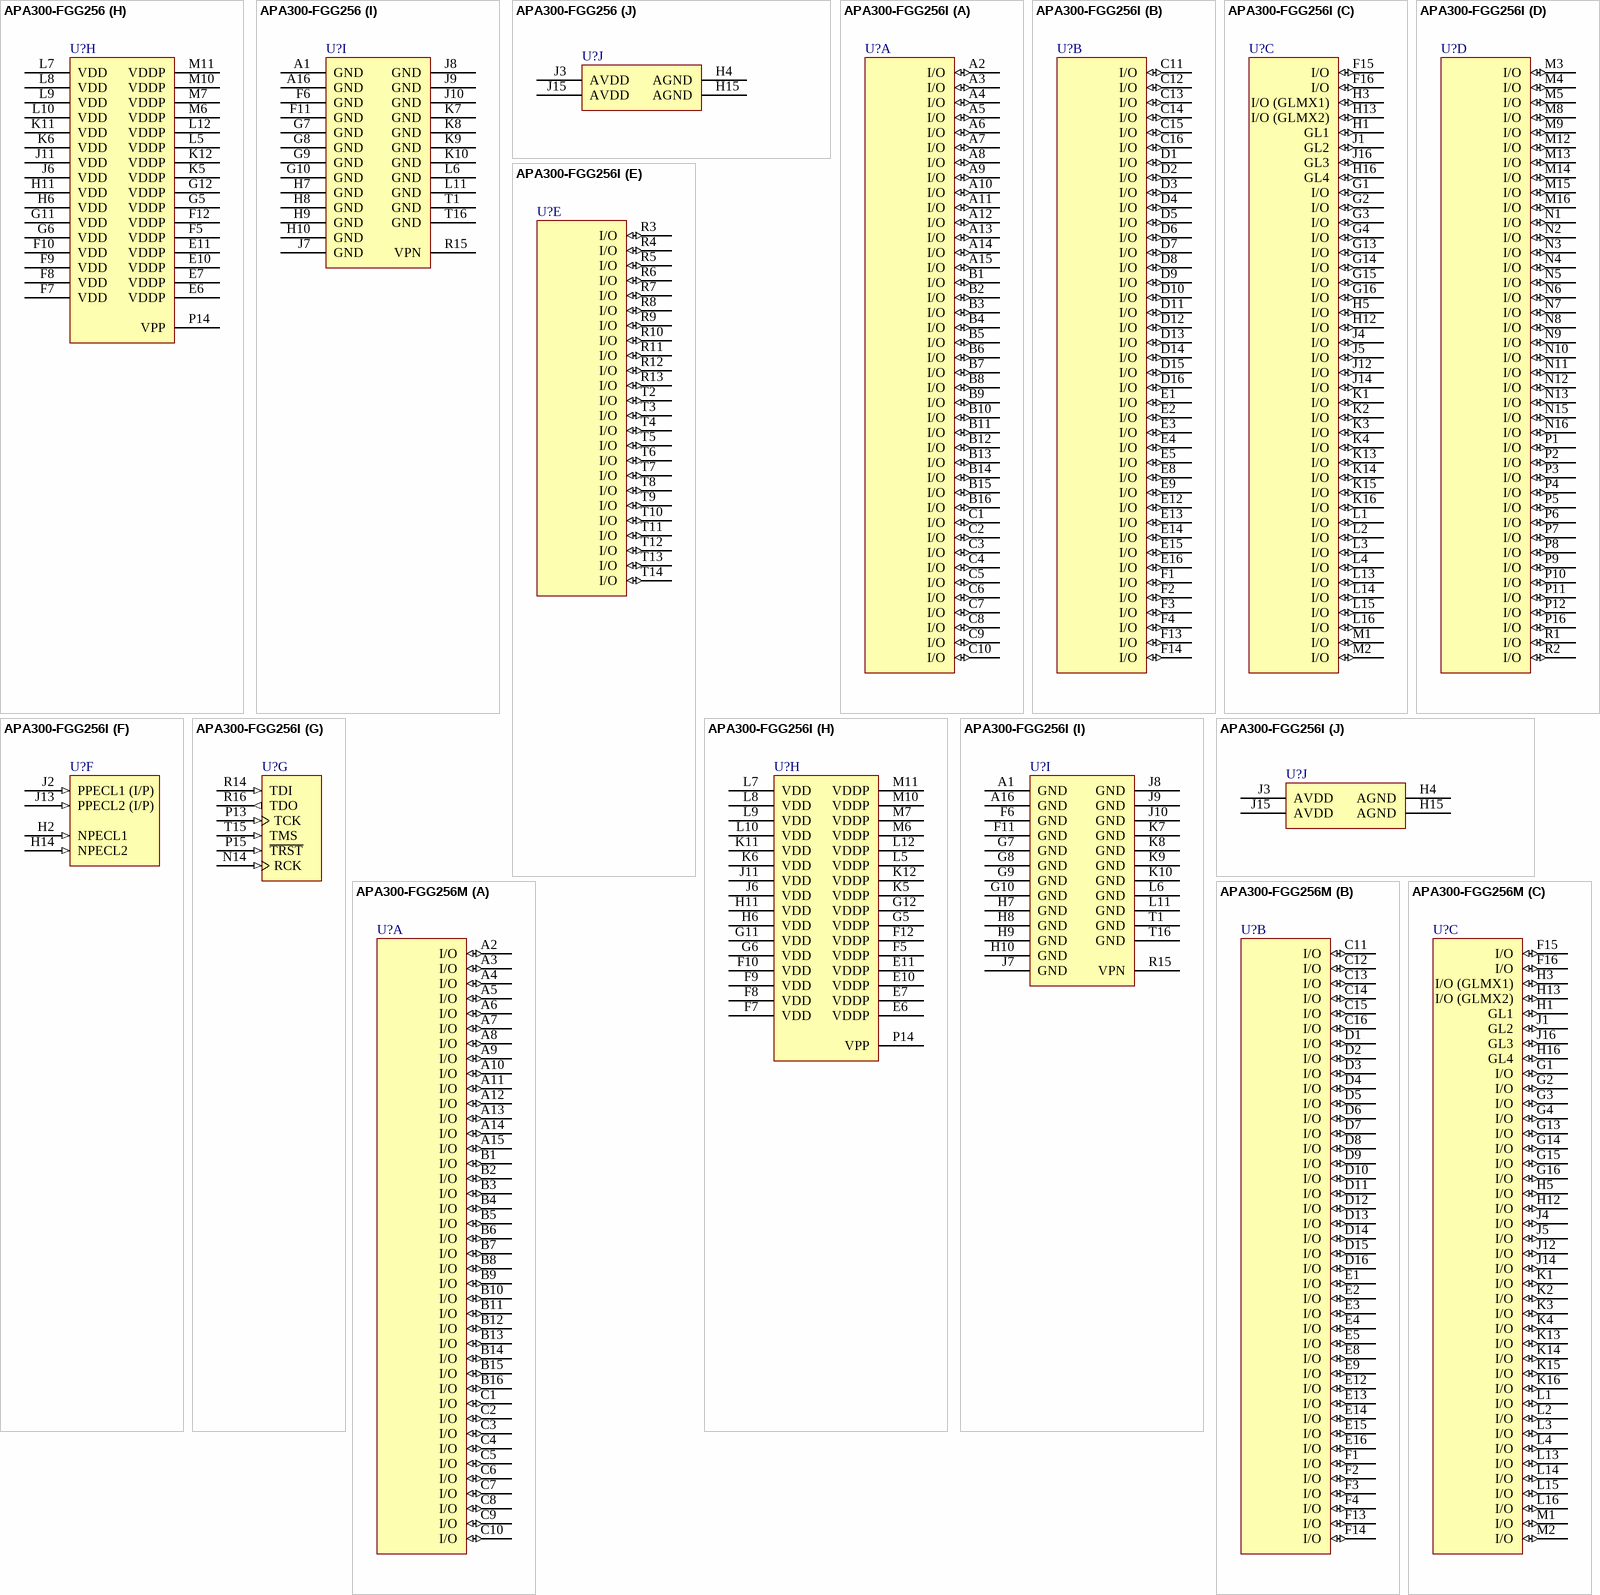
[diagram p51: symbols APA300-FGG256 to APA300-FGG256M]

## APA300-FGG256
designator U?
ProASICPlus APA300 Flash FPGA, 186 User IOs, 256-Pin FBGA, Speed Grade Standard, Commercial Grade, Pb-Free; DatasheetVersion: v5.9, Jan-2010; PackageVersion: rev39, Aug-2010; PackageReference: FG256; PackageDescription: 256-Ball Fine Pitch Plastic Ball Grid Array 1.00 mm Pitch (FG256); Code_JEDEC: MO-192-DAF-1; ComponentLink1Description: Manufacturer URL; ComponentLink1URL: http://www.actel.com/; ComponentLink2Description: ProASIC PLUS Datasheet; ComponentLink2URL: http://www.actel.com/documents/ProASICPLUS_DS.pdf; ComponentLink3Description: Package Mechanical Drawings; ComponentLink3URL: http://www.actel.com/documents/PckgMechDrwngs.pdf; ComponentLink4Description: ProASIC PLUS Documents; ComponentLink4URL: http://www.actel.com/products/proasicplus/docs.aspx
footprint FG256 (BGA, 256-Leads, Body 17x17mm, Pitch 1mm)
part A pins: A2 I/O (io), A3 I/O (io), A4 I/O (io), A5 I/O (io), A6 I/O (io), A7 I/O (io), A8 I/O (io), A9 I/O (io), A10 I/O (io), A11 I/O (io), A12 I/O (io), A13 I/O (io), A14 I/O (io), A15 I/O (io), B1 I/O (io), B2 I/O (io), B3 I/O (io), B4 I/O (io), B5 I/O (io), B6 I/O (io), B7 I/O (io), B8 I/O (io), B9 I/O (io), B10 I/O (io), B11 I/O (io), B12 I/O (io), B13 I/O (io), B14 I/O (io), B15 I/O (io), B16 I/O (io), C1 I/O (io), C2 I/O (io), C3 I/O (io), C4 I/O (io), C5 I/O (io), C6 I/O (io), C7 I/O (io), C8 I/O (io), C9 I/O (io), C10 I/O (io)
part B pins: C11 I/O (io), C12 I/O (io), C13 I/O (io), C14 I/O (io), C15 I/O (io), C16 I/O (io), D1 I/O (io), D2 I/O (io), D3 I/O (io), D4 I/O (io), D5 I/O (io), D6 I/O (io), D7 I/O (io), D8 I/O (io), D9 I/O (io), D10 I/O (io), D11 I/O (io), D12 I/O (io), D13 I/O (io), D14 I/O (io), D15 I/O (io), D16 I/O (io), E1 I/O (io), E2 I/O (io), E3 I/O (io), E4 I/O (io), E5 I/O (io), E8 I/O (io), E9 I/O (io), E12 I/O (io), E13 I/O (io), E14 I/O (io), E15 I/O (io), E16 I/O (io), F1 I/O (io), F2 I/O (io), F3 I/O (io), F4 I/O (io), F13 I/O (io), F14 I/O (io)
part C pins: F15 I/O (io), F16 I/O (io), G1 I/O (io), G2 I/O (io), G3 I/O (io), G4 I/O (io), G13 I/O (io), G14 I/O (io), G15 I/O (io), G16 I/O (io), H1 GL1 (io), H3 I/O (GLMX1) (io), H5 I/O (io), H12 I/O (io), H13 I/O (GLMX2) (io), H16 GL4 (io), J1 GL2 (io), J4 I/O (io), J5 I/O (io), J12 I/O (io), J14 I/O (io), J16 GL3 (io), K1 I/O (io), K2 I/O (io), K3 I/O (io), K4 I/O (io), K13 I/O (io), K14 I/O (io), K15 I/O (io), K16 I/O (io), L1 I/O (io), L2 I/O (io), L3 I/O (io), L4 I/O (io), L13 I/O (io), L14 I/O (io), L15 I/O (io), L16 I/O (io), M1 I/O (io), M2 I/O (io)
part D pins: M3 I/O (io), M4 I/O (io), M5 I/O (io), M8 I/O (io), M9 I/O (io), M12 I/O (io), M13 I/O (io), M14 I/O (io), M15 I/O (io), M16 I/O (io), N1 I/O (io), N2 I/O (io), N3 I/O (io), N4 I/O (io), N5 I/O (io), N6 I/O (io), N7 I/O (io), N8 I/O (io), N9 I/O (io), N10 I/O (io), N11 I/O (io), N12 I/O (io), N13 I/O (io), N15 I/O (io), N16 I/O (io), P1 I/O (io), P2 I/O (io), P3 I/O (io), P4 I/O (io), P5 I/O (io), P6 I/O (io), P7 I/O (io), P8 I/O (io), P9 I/O (io), P10 I/O (io), P11 I/O (io), P12 I/O (io), P16 I/O (io), R1 I/O (io), R2 I/O (io)
part E pins: R3 I/O (io), R4 I/O (io), R5 I/O (io), R6 I/O (io), R7 I/O (io), R8 I/O (io), R9 I/O (io), R10 I/O (io), R11 I/O (io), R12 I/O (io), R13 I/O (io), T2 I/O (io), T3 I/O (io), T4 I/O (io), T5 I/O (io), T6 I/O (io), T7 I/O (io), T8 I/O (io), T9 I/O (io), T10 I/O (io), T11 I/O (io), T12 I/O (io), T13 I/O (io), T14 I/O (io)
part F pins: H2 NPECL1 (in), H14 NPECL2 (in), J2 PPECL1 (I/P) (in), J13 PPECL2 (I/P) (in)
part G pins: N14 RCK (in), P13 TCK (in), P15 ~{TRST} (in), R14 TDI (in), R16 TDO (out), T15 TMS (in)
part H pins: E6 VDDP (power), E7 VDDP (power), E10 VDDP (power), E11 VDDP (power), F5 VDDP (power), F7 VDD (power), F8 VDD (power), F9 VDD (power), F10 VDD (power), F12 VDDP (power), G5 VDDP (power), G6 VDD (power), G11 VDD (power), G12 VDDP (power), H6 VDD (power), H11 VDD (power), J6 VDD (power), J11 VDD (power), K5 VDDP (power), K6 VDD (power), K11 VDD (power), K12 VDDP (power), L5 VDDP (power), L7 VDD (power), L8 VDD (power), L9 VDD (power), L10 VDD (power), L12 VDDP (power), M6 VDDP (power), M7 VDDP (power), M10 VDDP (power), M11 VDDP (power), P14 VPP (power)
part I pins: A1 GND (power), A16 GND (power), F6 GND (power), F11 GND (power), G7 GND (power), G8 GND (power), G9 GND (power), G10 GND (power), H7 GND (power), H8 GND (power), H9 GND (power), H10 GND (power), J7 GND (power), J8 GND (power), J9 GND (power), J10 GND (power), K7 GND (power), K8 GND (power), K9 GND (power), K10 GND (power), L6 GND (power), L11 GND (power), R15 VPN (power), T1 GND (power), T16 GND (power)
part J pins: H4 AGND (power), H15 AGND (power), J3 AVDD (power), J15 AVDD (power)

## APA300-FGG256I
designator U?
ProASICPlus APA300 Flash FPGA, 186 User IOs, 256-Pin FBGA, Speed Grade Standard, Industrial Grade, Pb-Free; DatasheetVersion: v5.9, Jan-2010; PackageVersion: rev39, Aug-2010; PackageReference: FG256; PackageDescription: 256-Ball Fine Pitch Plastic Ball Grid Array 1.00 mm Pitch (FG256); Code_JEDEC: MO-192-DAF-1; ComponentLink1Description: Manufacturer URL; ComponentLink1URL: http://www.actel.com/; ComponentLink2Description: ProASIC PLUS Datasheet; ComponentLink2URL: http://www.actel.com/documents/ProASICPLUS_DS.pdf; ComponentLink3Description: Package Mechanical Drawings; ComponentLink3URL: http://www.actel.com/documents/PckgMechDrwngs.pdf; ComponentLink4Description: ProASIC PLUS Documents; ComponentLink4URL: http://www.actel.com/products/proasicplus/docs.aspx
footprint FG256 (BGA, 256-Leads, Body 17x17mm, Pitch 1mm)
part A pins: A2 I/O (io), A3 I/O (io), A4 I/O (io), A5 I/O (io), A6 I/O (io), A7 I/O (io), A8 I/O (io), A9 I/O (io), A10 I/O (io), A11 I/O (io), A12 I/O (io), A13 I/O (io), A14 I/O (io), A15 I/O (io), B1 I/O (io), B2 I/O (io), B3 I/O (io), B4 I/O (io), B5 I/O (io), B6 I/O (io), B7 I/O (io), B8 I/O (io), B9 I/O (io), B10 I/O (io), B11 I/O (io), B12 I/O (io), B13 I/O (io), B14 I/O (io), B15 I/O (io), B16 I/O (io), C1 I/O (io), C2 I/O (io), C3 I/O (io), C4 I/O (io), C5 I/O (io), C6 I/O (io), C7 I/O (io), C8 I/O (io), C9 I/O (io), C10 I/O (io)
part B pins: C11 I/O (io), C12 I/O (io), C13 I/O (io), C14 I/O (io), C15 I/O (io), C16 I/O (io), D1 I/O (io), D2 I/O (io), D3 I/O (io), D4 I/O (io), D5 I/O (io), D6 I/O (io), D7 I/O (io), D8 I/O (io), D9 I/O (io), D10 I/O (io), D11 I/O (io), D12 I/O (io), D13 I/O (io), D14 I/O (io), D15 I/O (io), D16 I/O (io), E1 I/O (io), E2 I/O (io), E3 I/O (io), E4 I/O (io), E5 I/O (io), E8 I/O (io), E9 I/O (io), E12 I/O (io), E13 I/O (io), E14 I/O (io), E15 I/O (io), E16 I/O (io), F1 I/O (io), F2 I/O (io), F3 I/O (io), F4 I/O (io), F13 I/O (io), F14 I/O (io)
part C pins: F15 I/O (io), F16 I/O (io), G1 I/O (io), G2 I/O (io), G3 I/O (io), G4 I/O (io), G13 I/O (io), G14 I/O (io), G15 I/O (io), G16 I/O (io), H1 GL1 (io), H3 I/O (GLMX1) (io), H5 I/O (io), H12 I/O (io), H13 I/O (GLMX2) (io), H16 GL4 (io), J1 GL2 (io), J4 I/O (io), J5 I/O (io), J12 I/O (io), J14 I/O (io), J16 GL3 (io), K1 I/O (io), K2 I/O (io), K3 I/O (io), K4 I/O (io), K13 I/O (io), K14 I/O (io), K15 I/O (io), K16 I/O (io), L1 I/O (io), L2 I/O (io), L3 I/O (io), L4 I/O (io), L13 I/O (io), L14 I/O (io), L15 I/O (io), L16 I/O (io), M1 I/O (io), M2 I/O (io)
part D pins: M3 I/O (io), M4 I/O (io), M5 I/O (io), M8 I/O (io), M9 I/O (io), M12 I/O (io), M13 I/O (io), M14 I/O (io), M15 I/O (io), M16 I/O (io), N1 I/O (io), N2 I/O (io), N3 I/O (io), N4 I/O (io), N5 I/O (io), N6 I/O (io), N7 I/O (io), N8 I/O (io), N9 I/O (io), N10 I/O (io), N11 I/O (io), N12 I/O (io), N13 I/O (io), N15 I/O (io), N16 I/O (io), P1 I/O (io), P2 I/O (io), P3 I/O (io), P4 I/O (io), P5 I/O (io), P6 I/O (io), P7 I/O (io), P8 I/O (io), P9 I/O (io), P10 I/O (io), P11 I/O (io), P12 I/O (io), P16 I/O (io), R1 I/O (io), R2 I/O (io)
part E pins: R3 I/O (io), R4 I/O (io), R5 I/O (io), R6 I/O (io), R7 I/O (io), R8 I/O (io), R9 I/O (io), R10 I/O (io), R11 I/O (io), R12 I/O (io), R13 I/O (io), T2 I/O (io), T3 I/O (io), T4 I/O (io), T5 I/O (io), T6 I/O (io), T7 I/O (io), T8 I/O (io), T9 I/O (io), T10 I/O (io), T11 I/O (io), T12 I/O (io), T13 I/O (io), T14 I/O (io)
part F pins: H2 NPECL1 (in), H14 NPECL2 (in), J2 PPECL1 (I/P) (in), J13 PPECL2 (I/P) (in)
part G pins: N14 RCK (in), P13 TCK (in), P15 ~{TRST} (in), R14 TDI (in), R16 TDO (out), T15 TMS (in)
part H pins: E6 VDDP (power), E7 VDDP (power), E10 VDDP (power), E11 VDDP (power), F5 VDDP (power), F7 VDD (power), F8 VDD (power), F9 VDD (power), F10 VDD (power), F12 VDDP (power), G5 VDDP (power), G6 VDD (power), G11 VDD (power), G12 VDDP (power), H6 VDD (power), H11 VDD (power), J6 VDD (power), J11 VDD (power), K5 VDDP (power), K6 VDD (power), K11 VDD (power), K12 VDDP (power), L5 VDDP (power), L7 VDD (power), L8 VDD (power), L9 VDD (power), L10 VDD (power), L12 VDDP (power), M6 VDDP (power), M7 VDDP (power), M10 VDDP (power), M11 VDDP (power), P14 VPP (power)
part I pins: A1 GND (power), A16 GND (power), F6 GND (power), F11 GND (power), G7 GND (power), G8 GND (power), G9 GND (power), G10 GND (power), H7 GND (power), H8 GND (power), H9 GND (power), H10 GND (power), J7 GND (power), J8 GND (power), J9 GND (power), J10 GND (power), K7 GND (power), K8 GND (power), K9 GND (power), K10 GND (power), L6 GND (power), L11 GND (power), R15 VPN (power), T1 GND (power), T16 GND (power)
part J pins: H4 AGND (power), H15 AGND (power), J3 AVDD (power), J15 AVDD (power)

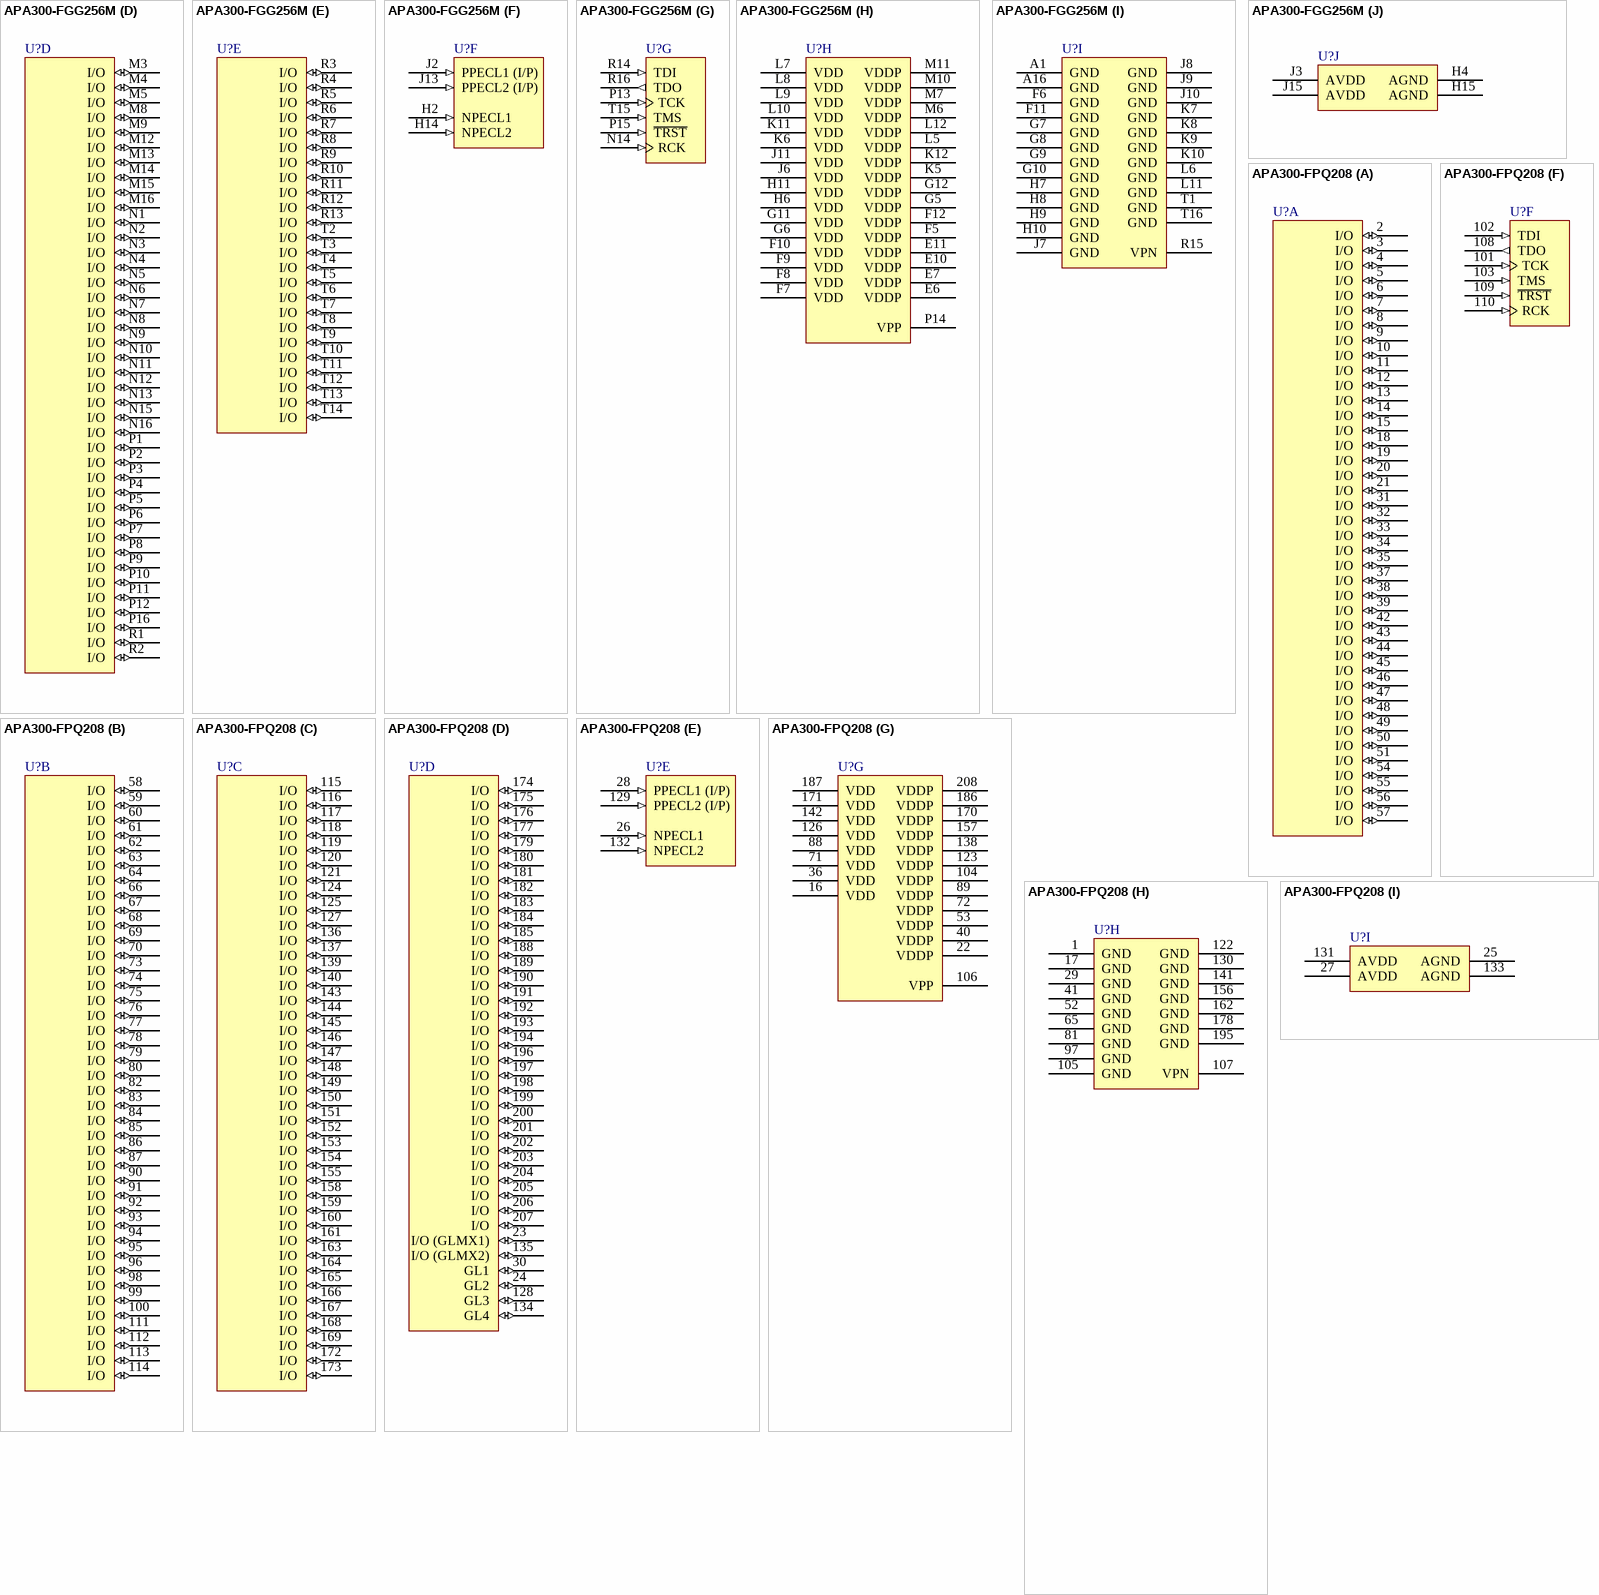
[diagram p52: symbols APA300-FGG256M to APA300-FPQ208]

## APA300-FGG256M
designator U?
ProASICPlus APA300 Flash FPGA, 186 User IOs, 256-Pin FBGA, Speed Grade Standard, Military Grade, Pb-Free; DatasheetVersion: v5.9, Jan-2010; PackageVersion: rev39, Aug-2010; PackageReference: FG256; PackageDescription: 256-Ball Fine Pitch Plastic Ball Grid Array 1.00 mm Pitch (FG256); Code_JEDEC: MO-192-DAF-1; ComponentLink1Description: Manufacturer URL; ComponentLink1URL: http://www.actel.com/; ComponentLink2Description: ProASIC PLUS Datasheet; ComponentLink2URL: http://www.actel.com/documents/ProASICPLUS_DS.pdf; ComponentLink3Description: Package Mechanical Drawings; ComponentLink3URL: http://www.actel.com/documents/PckgMechDrwngs.pdf; ComponentLink4Description: ProASIC PLUS Documents; ComponentLink4URL: http://www.actel.com/products/proasicplus/docs.aspx
footprint FG256 (BGA, 256-Leads, Body 17x17mm, Pitch 1mm)
part A pins: A2 I/O (io), A3 I/O (io), A4 I/O (io), A5 I/O (io), A6 I/O (io), A7 I/O (io), A8 I/O (io), A9 I/O (io), A10 I/O (io), A11 I/O (io), A12 I/O (io), A13 I/O (io), A14 I/O (io), A15 I/O (io), B1 I/O (io), B2 I/O (io), B3 I/O (io), B4 I/O (io), B5 I/O (io), B6 I/O (io), B7 I/O (io), B8 I/O (io), B9 I/O (io), B10 I/O (io), B11 I/O (io), B12 I/O (io), B13 I/O (io), B14 I/O (io), B15 I/O (io), B16 I/O (io), C1 I/O (io), C2 I/O (io), C3 I/O (io), C4 I/O (io), C5 I/O (io), C6 I/O (io), C7 I/O (io), C8 I/O (io), C9 I/O (io), C10 I/O (io)
part B pins: C11 I/O (io), C12 I/O (io), C13 I/O (io), C14 I/O (io), C15 I/O (io), C16 I/O (io), D1 I/O (io), D2 I/O (io), D3 I/O (io), D4 I/O (io), D5 I/O (io), D6 I/O (io), D7 I/O (io), D8 I/O (io), D9 I/O (io), D10 I/O (io), D11 I/O (io), D12 I/O (io), D13 I/O (io), D14 I/O (io), D15 I/O (io), D16 I/O (io), E1 I/O (io), E2 I/O (io), E3 I/O (io), E4 I/O (io), E5 I/O (io), E8 I/O (io), E9 I/O (io), E12 I/O (io), E13 I/O (io), E14 I/O (io), E15 I/O (io), E16 I/O (io), F1 I/O (io), F2 I/O (io), F3 I/O (io), F4 I/O (io), F13 I/O (io), F14 I/O (io)
part C pins: F15 I/O (io), F16 I/O (io), G1 I/O (io), G2 I/O (io), G3 I/O (io), G4 I/O (io), G13 I/O (io), G14 I/O (io), G15 I/O (io), G16 I/O (io), H1 GL1 (io), H3 I/O (GLMX1) (io), H5 I/O (io), H12 I/O (io), H13 I/O (GLMX2) (io), H16 GL4 (io), J1 GL2 (io), J4 I/O (io), J5 I/O (io), J12 I/O (io), J14 I/O (io), J16 GL3 (io), K1 I/O (io), K2 I/O (io), K3 I/O (io), K4 I/O (io), K13 I/O (io), K14 I/O (io), K15 I/O (io), K16 I/O (io), L1 I/O (io), L2 I/O (io), L3 I/O (io), L4 I/O (io), L13 I/O (io), L14 I/O (io), L15 I/O (io), L16 I/O (io), M1 I/O (io), M2 I/O (io)
part D pins: M3 I/O (io), M4 I/O (io), M5 I/O (io), M8 I/O (io), M9 I/O (io), M12 I/O (io), M13 I/O (io), M14 I/O (io), M15 I/O (io), M16 I/O (io), N1 I/O (io), N2 I/O (io), N3 I/O (io), N4 I/O (io), N5 I/O (io), N6 I/O (io), N7 I/O (io), N8 I/O (io), N9 I/O (io), N10 I/O (io), N11 I/O (io), N12 I/O (io), N13 I/O (io), N15 I/O (io), N16 I/O (io), P1 I/O (io), P2 I/O (io), P3 I/O (io), P4 I/O (io), P5 I/O (io), P6 I/O (io), P7 I/O (io), P8 I/O (io), P9 I/O (io), P10 I/O (io), P11 I/O (io), P12 I/O (io), P16 I/O (io), R1 I/O (io), R2 I/O (io)
part E pins: R3 I/O (io), R4 I/O (io), R5 I/O (io), R6 I/O (io), R7 I/O (io), R8 I/O (io), R9 I/O (io), R10 I/O (io), R11 I/O (io), R12 I/O (io), R13 I/O (io), T2 I/O (io), T3 I/O (io), T4 I/O (io), T5 I/O (io), T6 I/O (io), T7 I/O (io), T8 I/O (io), T9 I/O (io), T10 I/O (io), T11 I/O (io), T12 I/O (io), T13 I/O (io), T14 I/O (io)
part F pins: H2 NPECL1 (in), H14 NPECL2 (in), J2 PPECL1 (I/P) (in), J13 PPECL2 (I/P) (in)
part G pins: N14 RCK (in), P13 TCK (in), P15 ~{TRST} (in), R14 TDI (in), R16 TDO (out), T15 TMS (in)
part H pins: E6 VDDP (power), E7 VDDP (power), E10 VDDP (power), E11 VDDP (power), F5 VDDP (power), F7 VDD (power), F8 VDD (power), F9 VDD (power), F10 VDD (power), F12 VDDP (power), G5 VDDP (power), G6 VDD (power), G11 VDD (power), G12 VDDP (power), H6 VDD (power), H11 VDD (power), J6 VDD (power), J11 VDD (power), K5 VDDP (power), K6 VDD (power), K11 VDD (power), K12 VDDP (power), L5 VDDP (power), L7 VDD (power), L8 VDD (power), L9 VDD (power), L10 VDD (power), L12 VDDP (power), M6 VDDP (power), M7 VDDP (power), M10 VDDP (power), M11 VDDP (power), P14 VPP (power)
part I pins: A1 GND (power), A16 GND (power), F6 GND (power), F11 GND (power), G7 GND (power), G8 GND (power), G9 GND (power), G10 GND (power), H7 GND (power), H8 GND (power), H9 GND (power), H10 GND (power), J7 GND (power), J8 GND (power), J9 GND (power), J10 GND (power), K7 GND (power), K8 GND (power), K9 GND (power), K10 GND (power), L6 GND (power), L11 GND (power), R15 VPN (power), T1 GND (power), T16 GND (power)
part J pins: H4 AGND (power), H15 AGND (power), J3 AVDD (power), J15 AVDD (power)

## APA300-FPQ208
designator U?
ProASICPlus APA300 Flash FPGA, 156 User IOs, 208-Pin PQFP, Speed Grade F, Commercial Grade; DatasheetVersion: v5.8, Jun-2009; PackageVersion: ver11.2, Nov-2009; PackageReference: PQ208; PackageDescription: 208-Pin Plastic Quad Flat Pack (PQ208); Code_JEDEC: MS-029-FA-1; ComponentLink1Description: Manufacturer URL; ComponentLink1URL: http://www.actel.com/; ComponentLink2Description: ProASIC PLUS Datasheet; ComponentLink2URL: http://www.actel.com/documents/ProASICPLUS_DS.pdf; ComponentLink3Description: Package Mechanical Drawings; ComponentLink3URL: http://www.actel.com/documents/PckgMechDrwngs.pdf; ComponentLink4Description: ProASIC PLUS Documents; ComponentLink4URL: http://www.actel.com/products/proasicplus/docs.aspx
footprint PQ208_N (Shrink QFP, 208-Leads, Body 28x28mm, Pitch 0.5mm, IPC Medium Density)
footprint PQ208_L (Shrink QFP, 208-Leads, Body 28x28mm, Pitch 0.5mm, IPC High Density)
footprint PQ208_M (Shrink QFP, 208-Leads, Body 28x28mm, Pitch 0.5mm, IPC Low Density)
part A pins: 2 I/O (io), 3 I/O (io), 4 I/O (io), 5 I/O (io), 6 I/O (io), 7 I/O (io), 8 I/O (io), 9 I/O (io), 10 I/O (io), 11 I/O (io), 12 I/O (io), 13 I/O (io), 14 I/O (io), 15 I/O (io), 18 I/O (io), 19 I/O (io), 20 I/O (io), 21 I/O (io), 31 I/O (io), 32 I/O (io), 33 I/O (io), 34 I/O (io), 35 I/O (io), 37 I/O (io), 38 I/O (io), 39 I/O (io), 42 I/O (io), 43 I/O (io), 44 I/O (io), 45 I/O (io), 46 I/O (io), 47 I/O (io), 48 I/O (io), 49 I/O (io), 50 I/O (io), 51 I/O (io), 54 I/O (io), 55 I/O (io), 56 I/O (io), 57 I/O (io)
part B pins: 58 I/O (io), 59 I/O (io), 60 I/O (io), 61 I/O (io), 62 I/O (io), 63 I/O (io), 64 I/O (io), 66 I/O (io), 67 I/O (io), 68 I/O (io), 69 I/O (io), 70 I/O (io), 73 I/O (io), 74 I/O (io), 75 I/O (io), 76 I/O (io), 77 I/O (io), 78 I/O (io), 79 I/O (io), 80 I/O (io), 82 I/O (io), 83 I/O (io), 84 I/O (io), 85 I/O (io), 86 I/O (io), 87 I/O (io), 90 I/O (io), 91 I/O (io), 92 I/O (io), 93 I/O (io), 94 I/O (io), 95 I/O (io), 96 I/O (io), 98 I/O (io), 99 I/O (io), 100 I/O (io), 111 I/O (io), 112 I/O (io), 113 I/O (io), 114 I/O (io)
part C pins: 115 I/O (io), 116 I/O (io), 117 I/O (io), 118 I/O (io), 119 I/O (io), 120 I/O (io), 121 I/O (io), 124 I/O (io), 125 I/O (io), 127 I/O (io), 136 I/O (io), 137 I/O (io), 139 I/O (io), 140 I/O (io), 143 I/O (io), 144 I/O (io), 145 I/O (io), 146 I/O (io), 147 I/O (io), 148 I/O (io), 149 I/O (io), 150 I/O (io), 151 I/O (io), 152 I/O (io), 153 I/O (io), 154 I/O (io), 155 I/O (io), 158 I/O (io), 159 I/O (io), 160 I/O (io), 161 I/O (io), 163 I/O (io), 164 I/O (io), 165 I/O (io), 166 I/O (io), 167 I/O (io), 168 I/O (io), 169 I/O (io), 172 I/O (io), 173 I/O (io)
part D pins: 23 I/O (GLMX1) (io), 24 GL2 (io), 30 GL1 (io), 128 GL3 (io), 134 GL4 (io), 135 I/O (GLMX2) (io), 174 I/O (io), 175 I/O (io), 176 I/O (io), 177 I/O (io), 179 I/O (io), 180 I/O (io), 181 I/O (io), 182 I/O (io), 183 I/O (io), 184 I/O (io), 185 I/O (io), 188 I/O (io), 189 I/O (io), 190 I/O (io), 191 I/O (io), 192 I/O (io), 193 I/O (io), 194 I/O (io), 196 I/O (io), 197 I/O (io), 198 I/O (io), 199 I/O (io), 200 I/O (io), 201 I/O (io), 202 I/O (io), 203 I/O (io), 204 I/O (io), 205 I/O (io), 206 I/O (io), 207 I/O (io)
part E pins: 26 NPECL1 (in), 28 PPECL1 (I/P) (in), 129 PPECL2 (I/P) (in), 132 NPECL2 (in)
part F pins: 101 TCK (in), 102 TDI (in), 103 TMS (in), 108 TDO (out), 109 ~{TRST} (in), 110 RCK (in)
part G pins: 16 VDD (power), 22 VDDP (power), 36 VDD (power), 40 VDDP (power), 53 VDDP (power), 71 VDD (power), 72 VDDP (power), 88 VDD (power), 89 VDDP (power), 104 VDDP (power), 106 VPP (power), 123 VDDP (power), 126 VDD (power), 138 VDDP (power), 142 VDD (power), 157 VDDP (power), 170 VDDP (power), 171 VDD (power), 186 VDDP (power), 187 VDD (power), 208 VDDP (power)
part H pins: 1 GND (power), 17 GND (power), 29 GND (power), 41 GND (power), 52 GND (power), 65 GND (power), 81 GND (power), 97 GND (power), 105 GND (power), 107 VPN (power), 122 GND (power), 130 GND (power), 141 GND (power), 156 GND (power), 162 GND (power), 178 GND (power), 195 GND (power)
part I pins: 25 AGND (power), 27 AVDD (power), 131 AVDD (power), 133 AGND (power)

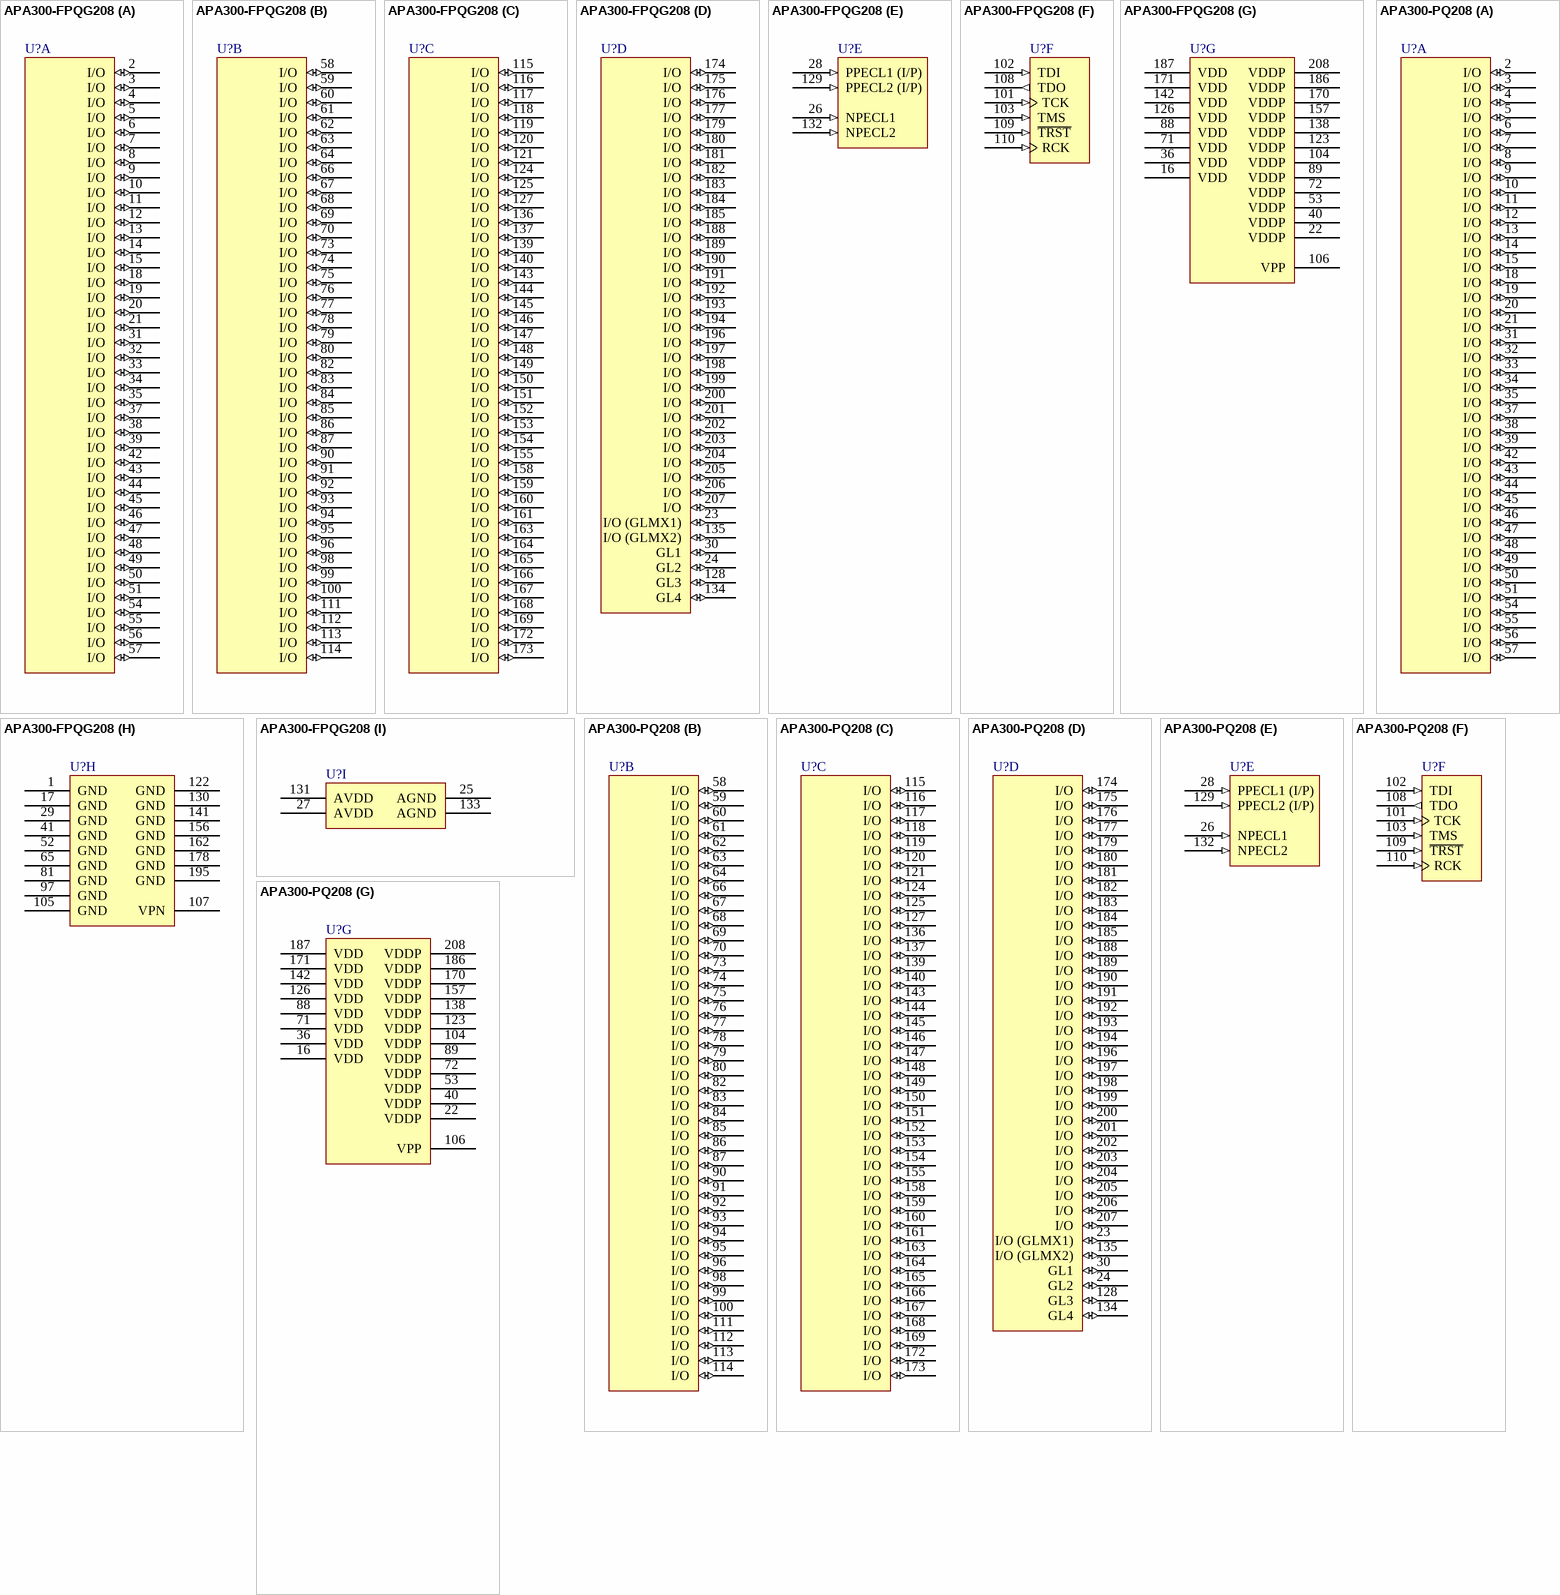
[diagram p53: symbols APA300-FPQG208 to APA300-PQ208]

## APA300-FPQG208
designator U?
ProASICPlus APA300 Flash FPGA, 156 User IOs, 208-Pin PQFP, Speed Grade F, Commercial Grade, Pb-Free; DatasheetVersion: v5.8, Jun-2009; PackageVersion: ver11.2, Nov-2009; PackageReference: PQ208; PackageDescription: 208-Pin Plastic Quad Flat Pack (PQ208); Code_JEDEC: MS-029-FA-1; ComponentLink1Description: Manufacturer URL; ComponentLink1URL: http://www.actel.com/; ComponentLink2Description: ProASIC PLUS Datasheet; ComponentLink2URL: http://www.actel.com/documents/ProASICPLUS_DS.pdf; ComponentLink3Description: Package Mechanical Drawings; ComponentLink3URL: http://www.actel.com/documents/PckgMechDrwngs.pdf; ComponentLink4Description: ProASIC PLUS Documents; ComponentLink4URL: http://www.actel.com/products/proasicplus/docs.aspx
footprint PQ208_N (Shrink QFP, 208-Leads, Body 28x28mm, Pitch 0.5mm, IPC Medium Density)
footprint PQ208_L (Shrink QFP, 208-Leads, Body 28x28mm, Pitch 0.5mm, IPC High Density)
footprint PQ208_M (Shrink QFP, 208-Leads, Body 28x28mm, Pitch 0.5mm, IPC Low Density)
part A pins: 2 I/O (io), 3 I/O (io), 4 I/O (io), 5 I/O (io), 6 I/O (io), 7 I/O (io), 8 I/O (io), 9 I/O (io), 10 I/O (io), 11 I/O (io), 12 I/O (io), 13 I/O (io), 14 I/O (io), 15 I/O (io), 18 I/O (io), 19 I/O (io), 20 I/O (io), 21 I/O (io), 31 I/O (io), 32 I/O (io), 33 I/O (io), 34 I/O (io), 35 I/O (io), 37 I/O (io), 38 I/O (io), 39 I/O (io), 42 I/O (io), 43 I/O (io), 44 I/O (io), 45 I/O (io), 46 I/O (io), 47 I/O (io), 48 I/O (io), 49 I/O (io), 50 I/O (io), 51 I/O (io), 54 I/O (io), 55 I/O (io), 56 I/O (io), 57 I/O (io)
part B pins: 58 I/O (io), 59 I/O (io), 60 I/O (io), 61 I/O (io), 62 I/O (io), 63 I/O (io), 64 I/O (io), 66 I/O (io), 67 I/O (io), 68 I/O (io), 69 I/O (io), 70 I/O (io), 73 I/O (io), 74 I/O (io), 75 I/O (io), 76 I/O (io), 77 I/O (io), 78 I/O (io), 79 I/O (io), 80 I/O (io), 82 I/O (io), 83 I/O (io), 84 I/O (io), 85 I/O (io), 86 I/O (io), 87 I/O (io), 90 I/O (io), 91 I/O (io), 92 I/O (io), 93 I/O (io), 94 I/O (io), 95 I/O (io), 96 I/O (io), 98 I/O (io), 99 I/O (io), 100 I/O (io), 111 I/O (io), 112 I/O (io), 113 I/O (io), 114 I/O (io)
part C pins: 115 I/O (io), 116 I/O (io), 117 I/O (io), 118 I/O (io), 119 I/O (io), 120 I/O (io), 121 I/O (io), 124 I/O (io), 125 I/O (io), 127 I/O (io), 136 I/O (io), 137 I/O (io), 139 I/O (io), 140 I/O (io), 143 I/O (io), 144 I/O (io), 145 I/O (io), 146 I/O (io), 147 I/O (io), 148 I/O (io), 149 I/O (io), 150 I/O (io), 151 I/O (io), 152 I/O (io), 153 I/O (io), 154 I/O (io), 155 I/O (io), 158 I/O (io), 159 I/O (io), 160 I/O (io), 161 I/O (io), 163 I/O (io), 164 I/O (io), 165 I/O (io), 166 I/O (io), 167 I/O (io), 168 I/O (io), 169 I/O (io), 172 I/O (io), 173 I/O (io)
part D pins: 23 I/O (GLMX1) (io), 24 GL2 (io), 30 GL1 (io), 128 GL3 (io), 134 GL4 (io), 135 I/O (GLMX2) (io), 174 I/O (io), 175 I/O (io), 176 I/O (io), 177 I/O (io), 179 I/O (io), 180 I/O (io), 181 I/O (io), 182 I/O (io), 183 I/O (io), 184 I/O (io), 185 I/O (io), 188 I/O (io), 189 I/O (io), 190 I/O (io), 191 I/O (io), 192 I/O (io), 193 I/O (io), 194 I/O (io), 196 I/O (io), 197 I/O (io), 198 I/O (io), 199 I/O (io), 200 I/O (io), 201 I/O (io), 202 I/O (io), 203 I/O (io), 204 I/O (io), 205 I/O (io), 206 I/O (io), 207 I/O (io)
part E pins: 26 NPECL1 (in), 28 PPECL1 (I/P) (in), 129 PPECL2 (I/P) (in), 132 NPECL2 (in)
part F pins: 101 TCK (in), 102 TDI (in), 103 TMS (in), 108 TDO (out), 109 ~{TRST} (in), 110 RCK (in)
part G pins: 16 VDD (power), 22 VDDP (power), 36 VDD (power), 40 VDDP (power), 53 VDDP (power), 71 VDD (power), 72 VDDP (power), 88 VDD (power), 89 VDDP (power), 104 VDDP (power), 106 VPP (power), 123 VDDP (power), 126 VDD (power), 138 VDDP (power), 142 VDD (power), 157 VDDP (power), 170 VDDP (power), 171 VDD (power), 186 VDDP (power), 187 VDD (power), 208 VDDP (power)
part H pins: 1 GND (power), 17 GND (power), 29 GND (power), 41 GND (power), 52 GND (power), 65 GND (power), 81 GND (power), 97 GND (power), 105 GND (power), 107 VPN (power), 122 GND (power), 130 GND (power), 141 GND (power), 156 GND (power), 162 GND (power), 178 GND (power), 195 GND (power)
part I pins: 25 AGND (power), 27 AVDD (power), 131 AVDD (power), 133 AGND (power)

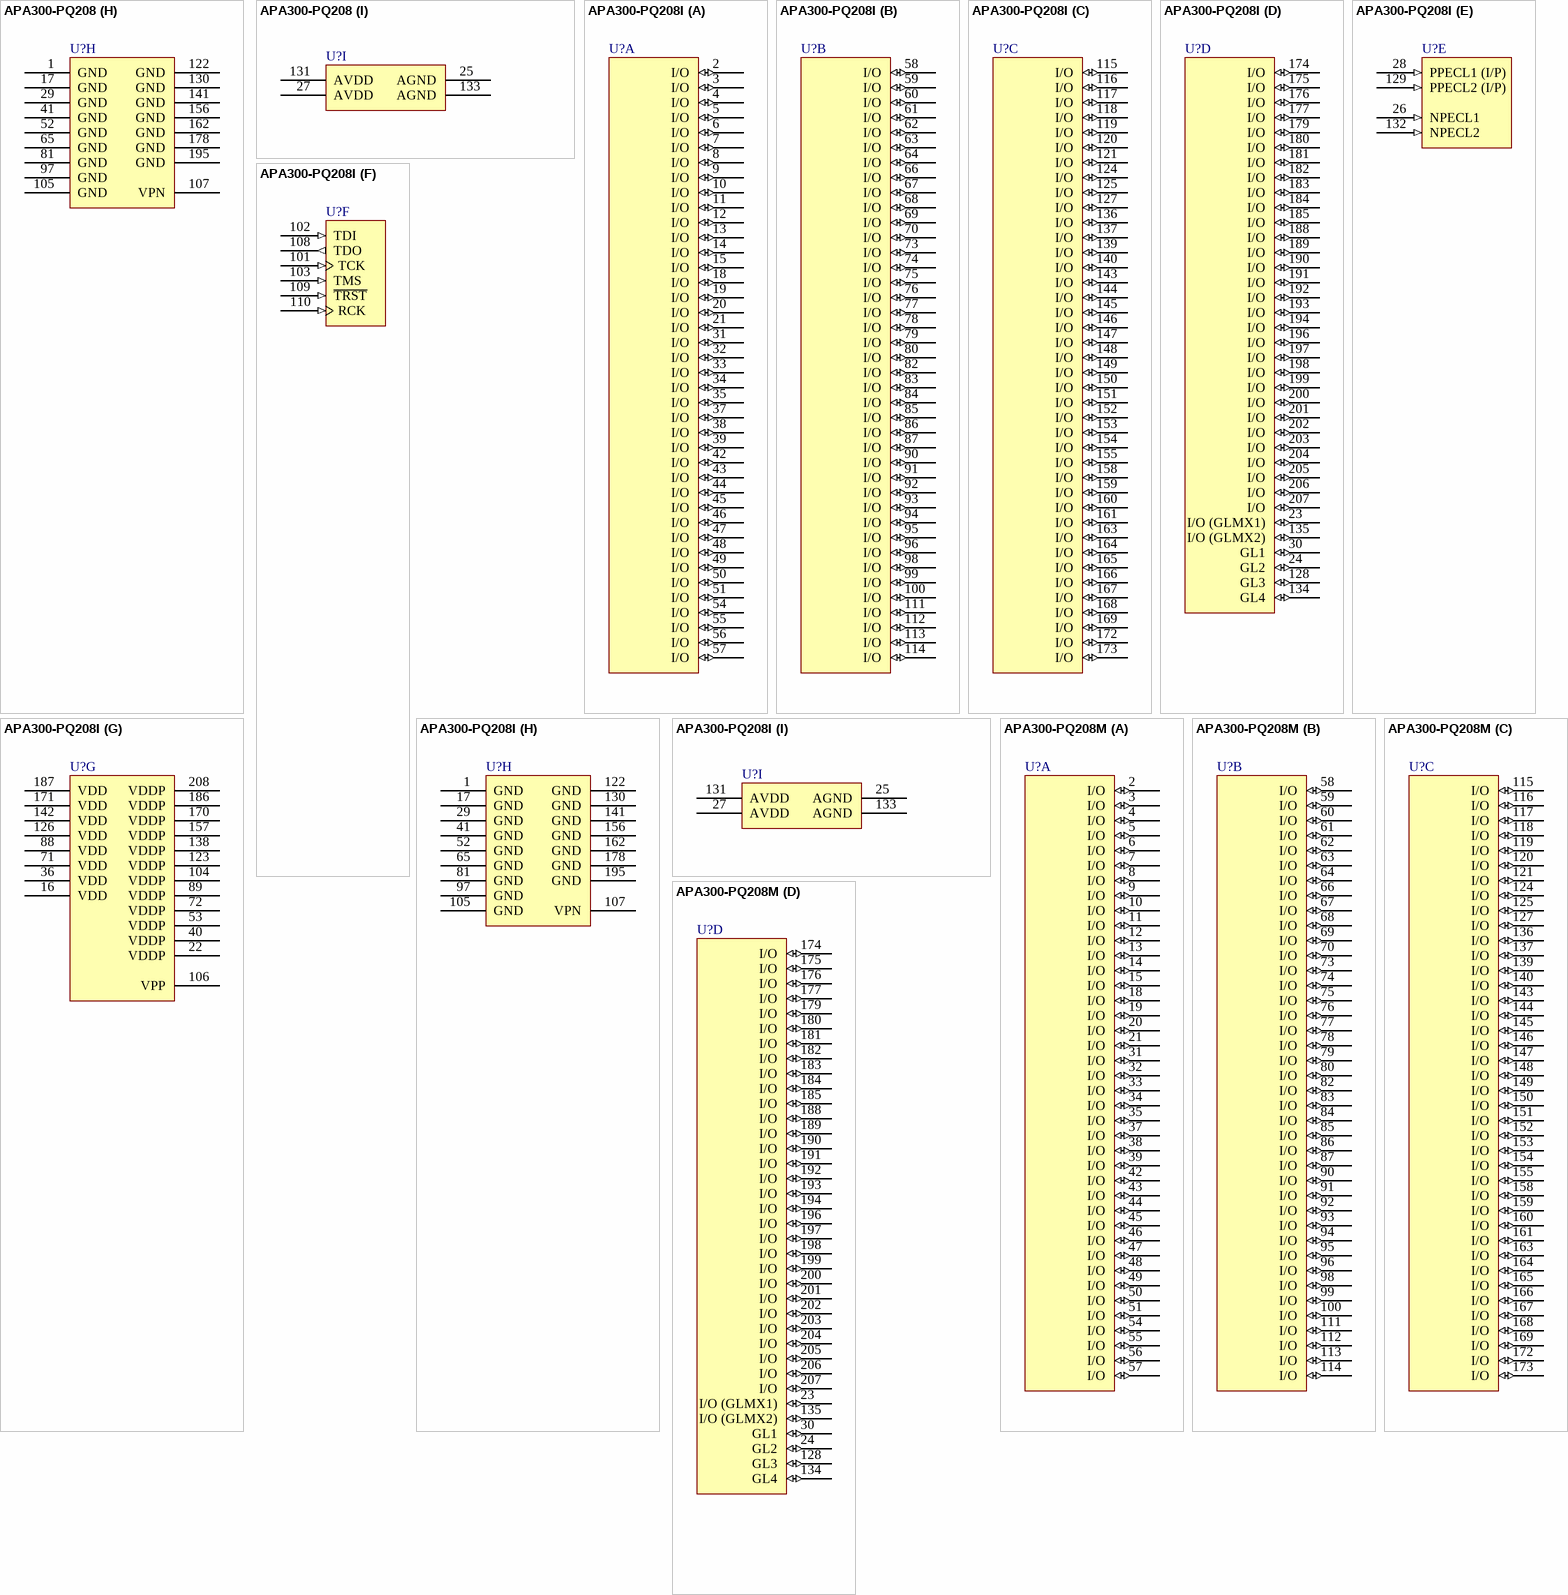
[diagram p54: symbols APA300-PQ208 to APA300-PQ208M]